# Altium schematic symbol library Ancient Schematics.SchLib: 609 symbols (part 3 of 3)
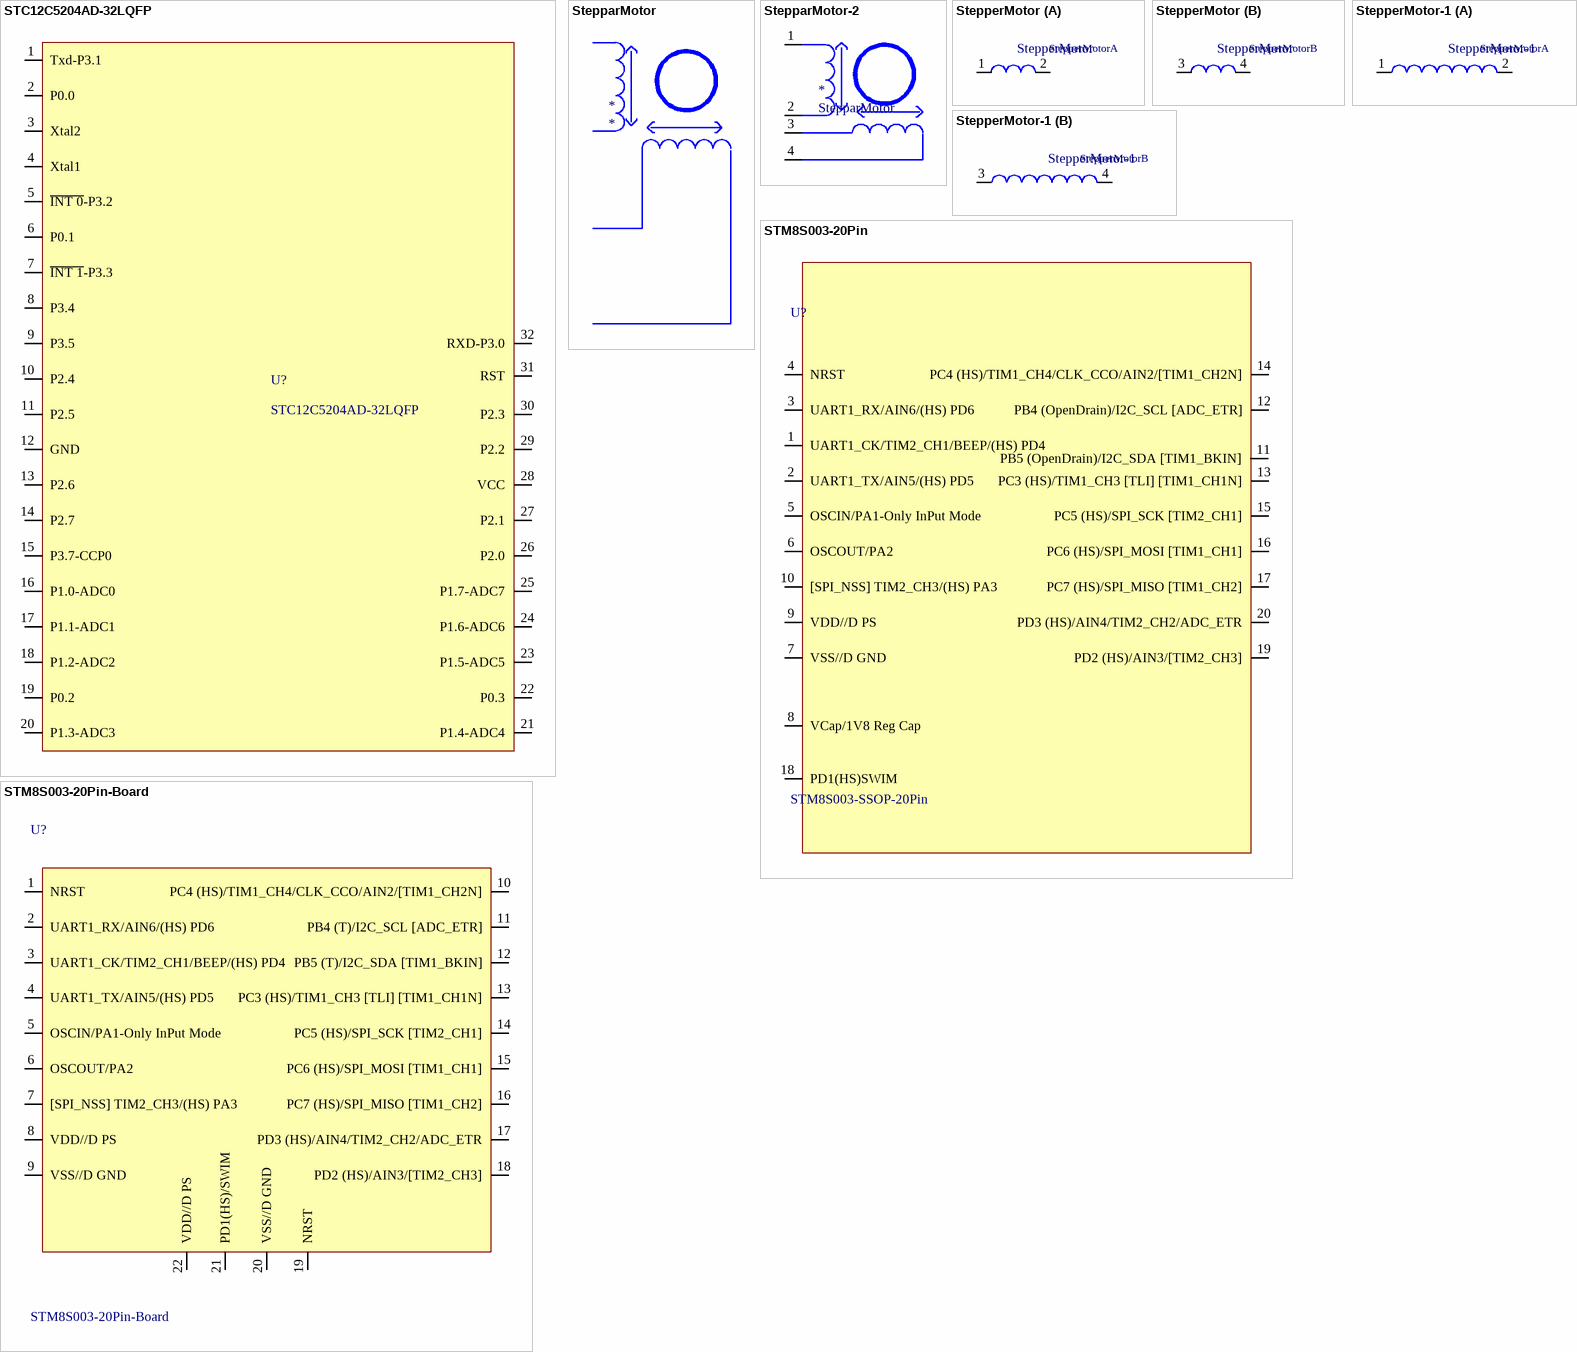
[diagram p46: symbols STC12C5204AD-32LQFP to STM8S003-20Pin-Board]

## STM8S003-20Pin-Board
designator U?
Flash256KB,16KB,100Pin TQFP
footprint STM8S_SSOP20_MT185 (STM8S Target Board)
pins: 1 NRST, 2 UART1_RX/AIN6/(HS) PD6, 3 UART1_CK/TIM2_CH1/BEEP/(HS) PD4, 4 UART1_TX/AIN5/(HS) PD5, 5 OSCIN/PA1-Only InPut Mode, 6 OSCOUT/PA2, 7 [SPI_NSS] TIM2_CH3/(HS) PA3, 8 VDD//D PS, 9 VSS//D GND, 10 PC4 (HS)/TIM1_CH4/CLK_CCO/AIN2/[TIM1_CH2N], 11 PB4 (T)/I2C_SCL [ADC_ETR], 12 PB5 (T)/I2C_SDA [TIM1_BKIN], 13 PC3 (HS)/TIM1_CH3 [TLI] [TIM1_CH1N], 14 PC5 (HS)/SPI_SCK [TIM2_CH1], 15 PC6 (HS)/SPI_MOSI [TIM1_CH1], 16 PC7 (HS)/SPI_MISO [TIM1_CH2], 17 PD3 (HS)/AIN4/TIM2_CH2/ADC_ETR, 18 PD2 (HS)/AIN3/[TIM2_CH3], 19 NRST, 20 VSS//D GND, 21 PD1(HS)/SWIM, 22 VDD//D PS

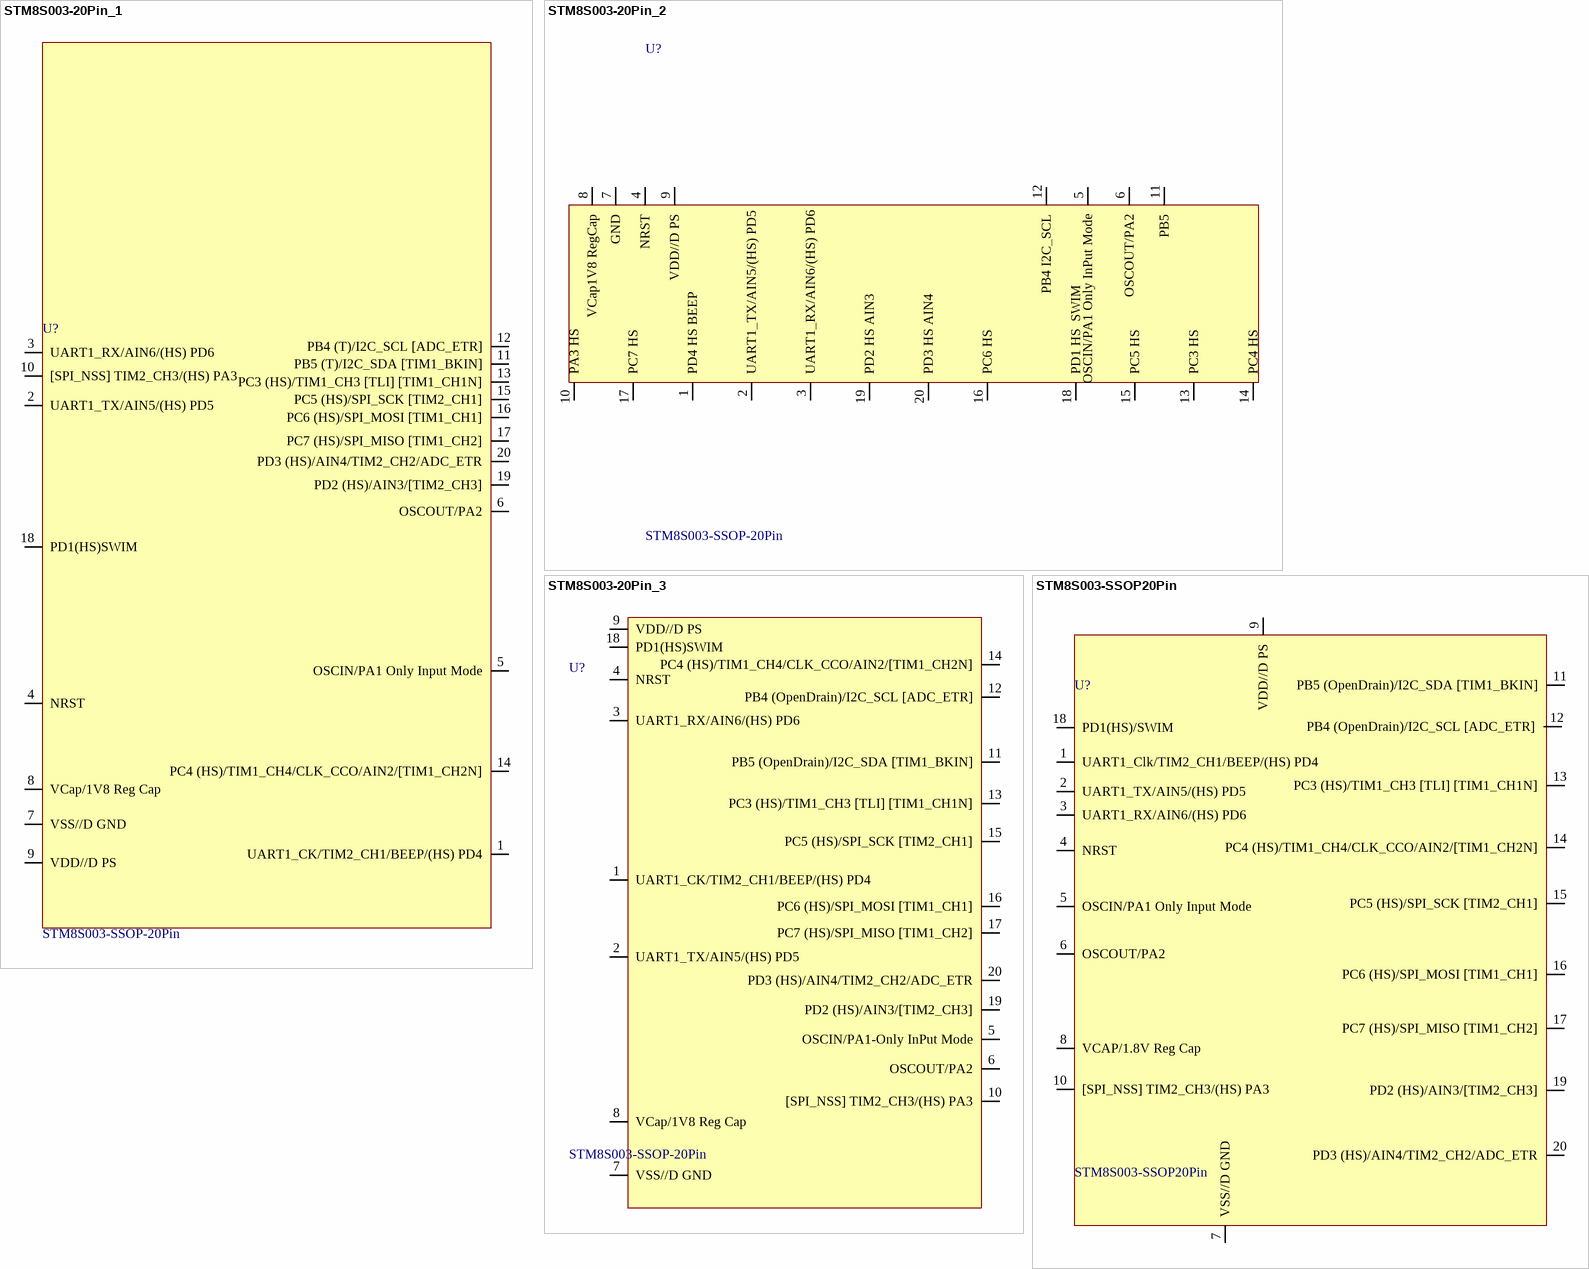
[diagram p34: symbols STM8S003-20Pin_1 to STM8S003-SSOP20Pin]

## STM8S003-20Pin_1
designator U?, comment STM8S003-SSOP-20Pin
Flash8KB,1KB,20Pin SSOP
footprint SSOP-20 4.40MM .65MM Pitch (STM8S003)
pins: 1 UART1_CK/TIM2_CH1/BEEP/(HS) PD4, 2 UART1_TX/AIN5/(HS) PD5, 3 UART1_RX/AIN6/(HS) PD6, 4 NRST, 5 OSCIN/PA1 Only Input Mode, 6 OSCOUT/PA2, 7 VSS//D GND, 8 VCap/1V8 Reg Cap, 9 VDD//D PS, 10 [SPI_NSS] TIM2_CH3/(HS) PA3, 11 PB5 (T)/I2C_SDA [TIM1_BKIN], 12 PB4 (T)/I2C_SCL [ADC_ETR], 13 PC3 (HS)/TIM1_CH3 [TLI] [TIM1_CH1N], 14 PC4 (HS)/TIM1_CH4/CLK_CCO/AIN2/[TIM1_CH2N], 15 PC5 (HS)/SPI_SCK [TIM2_CH1], 16 PC6 (HS)/SPI_MOSI [TIM1_CH1], 17 PC7 (HS)/SPI_MISO [TIM1_CH2], 18 PD1(HS)SWIM, 19 PD2 (HS)/AIN3/[TIM2_CH3], 20 PD3 (HS)/AIN4/TIM2_CH2/ADC_ETR

## STM8S003-20Pin_2
designator U?, comment STM8S003-SSOP-20Pin
Flash8KB,1KB,20Pin SSOP
footprint SSOP-20 4.40MM .65MM Pitch (STM8S003)
pins: 1 PD4 HS BEEP, 2 UART1_TX/AIN5/(HS) PD5, 3 UART1_RX/AIN6/(HS) PD6, 4 NRST, 5 OSCIN/PA1 Only InPut Mode, 6 OSCOUT/PA2, 7 GND, 8 VCap1V8 RegCap, 9 VDD//D PS, 10 PA3 HS, 11 PB5, 12 PB4 I2C_SCL, 13 PC3 HS, 14 PC4 HS, 15 PC5 HS, 16 PC6 HS, 17 PC7 HS, 18 PD1 HS  SWIM, 19 PD2 HS AIN3, 20 PD3 HS AIN4

## STM8S003-20Pin_3
designator U?, comment STM8S003-SSOP-20Pin
Flash8KB,1KB,20Pin SSOP
footprint SSOP-20 4.40MM .65MM Pitch (STM8S003)
pins: 1 UART1_CK/TIM2_CH1/BEEP/(HS) PD4, 2 UART1_TX/AIN5/(HS) PD5, 3 UART1_RX/AIN6/(HS) PD6, 4 NRST, 5 OSCIN/PA1-Only InPut Mode, 6 OSCOUT/PA2, 7 VSS//D GND, 8 VCap/1V8 Reg Cap, 9 VDD//D PS, 10 [SPI_NSS] TIM2_CH3/(HS) PA3, 11 PB5 (OpenDrain)/I2C_SDA [TIM1_BKIN], 12 PB4 (OpenDrain)/I2C_SCL [ADC_ETR], 13 PC3 (HS)/TIM1_CH3 [TLI] [TIM1_CH1N], 14 PC4 (HS)/TIM1_CH4/CLK_CCO/AIN2/[TIM1_CH2N], 15 PC5 (HS)/SPI_SCK [TIM2_CH1], 16 PC6 (HS)/SPI_MOSI [TIM1_CH1], 17 PC7 (HS)/SPI_MISO [TIM1_CH2], 18 PD1(HS)SWIM, 19 PD2 (HS)/AIN3/[TIM2_CH3], 20 PD3 (HS)/AIN4/TIM2_CH2/ADC_ETR

## STM8S003-SSOP20Pin
designator U?
Flash8KB,1KB,20Pin SSOP
footprint SSOP-20 4.40MM .65MM Pitch-1 (STM8S003)
pins: 1 UART1_Clk/TIM2_CH1/BEEP/(HS) PD4, 2 UART1_TX/AIN5/(HS) PD5, 3 UART1_RX/AIN6/(HS) PD6, 4 NRST, 5 OSCIN/PA1 Only Input Mode, 6 OSCOUT/PA2, 7 VSS//D GND, 8 VCAP/1.8V Reg Cap, 9 VDD//D PS, 10 [SPI_NSS] TIM2_CH3/(HS) PA3, 11 PB5 (OpenDrain)/I2C_SDA [TIM1_BKIN], 12 PB4 (OpenDrain)/I2C_SCL [ADC_ETR], 13 PC3 (HS)/TIM1_CH3 [TLI] [TIM1_CH1N], 14 PC4 (HS)/TIM1_CH4/CLK_CCO/AIN2/[TIM1_CH2N], 15 PC5 (HS)/SPI_SCK [TIM2_CH1], 16 PC6 (HS)/SPI_MOSI [TIM1_CH1], 17 PC7 (HS)/SPI_MISO [TIM1_CH2], 18 PD1(HS)/SWIM, 19 PD2 (HS)/AIN3/[TIM2_CH3], 20 PD3 (HS)/AIN4/TIM2_CH2/ADC_ETR

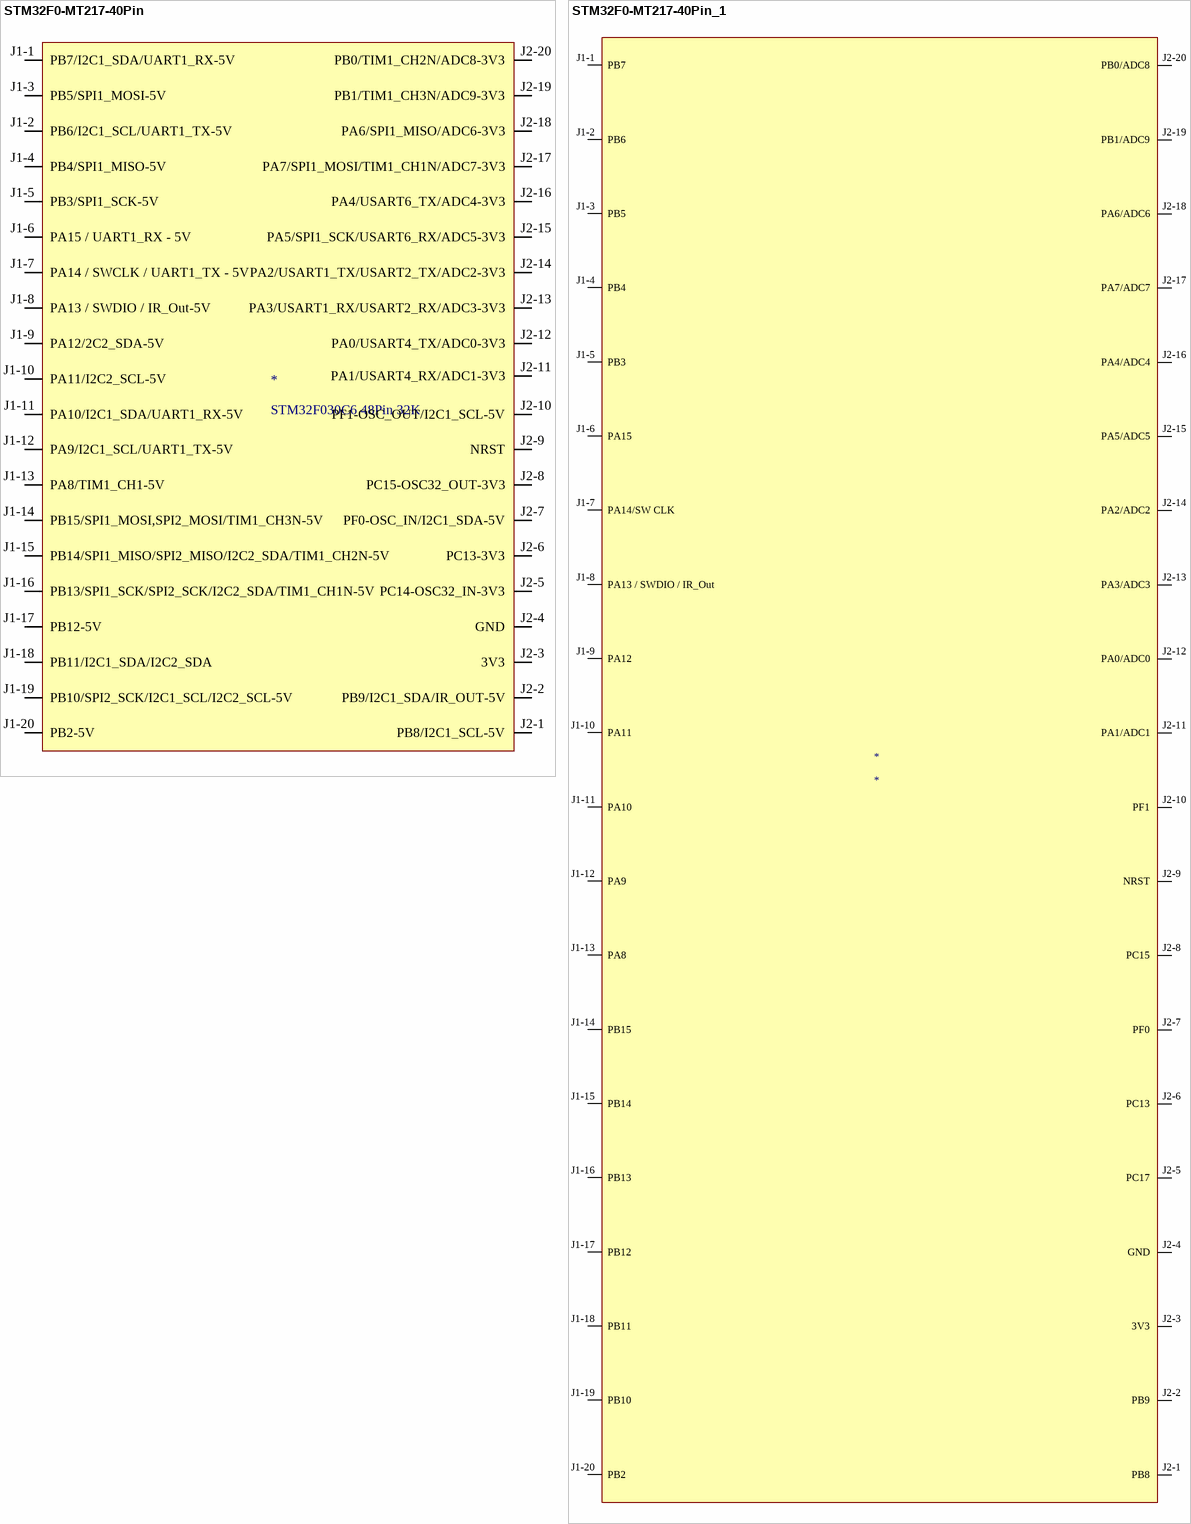
[diagram p35: symbols STM32F0-MT217-40Pin to STM32F0-MT217-40Pin_1]

## STM32F0-MT217-40Pin
designator *, comment STM32F030C6 48Pin 32K
footprint MT217-STM32F030C6 (TM32F030C6 48Pin 32K)
pins: J1-1 PB7/I2C1_SDA/UART1_RX-5V, J1-2 PB6/I2C1_SCL/UART1_TX-5V, J1-3 PB5/SPI1_MOSI-5V, J1-4 PB4/SPI1_MISO-5V, J1-5 PB3/SPI1_SCK-5V, J1-6 PA15 / UART1_RX - 5V, J1-7 PA14 / SWCLK / UART1_TX - 5V, J1-8 PA13 / SWDIO / IR_Out-5V, J1-9 PA12/2C2_SDA-5V, J1-10 PA11/I2C2_SCL-5V, J1-11 PA10/I2C1_SDA/UART1_RX-5V, J1-12 PA9/I2C1_SCL/UART1_TX-5V, J1-13 PA8/TIM1_CH1-5V, J1-14 PB15/SPI1_MOSI,SPI2_MOSI/TIM1_CH3N-5V, J1-15 PB14/SPI1_MISO/SPI2_MISO/I2C2_SDA/TIM1_CH2N-5V, J1-16 PB13/SPI1_SCK/SPI2_SCK/I2C2_SDA/TIM1_CH1N-5V, J1-17 PB12-5V, J1-18 PB11/I2C1_SDA/I2C2_SDA, J1-19 PB10/SPI2_SCK/I2C1_SCL/I2C2_SCL-5V, J1-20 PB2-5V, J2-1 PB8/I2C1_SCL-5V, J2-2 PB9/I2C1_SDA/IR_OUT-5V, J2-3 3V3, J2-4 GND, J2-5 PC14-OSC32_IN-3V3, J2-6 PC13-3V3, J2-7 PF0-OSC_IN/I2C1_SDA-5V, J2-8 PC15-OSC32_OUT-3V3, J2-9 NRST, J2-10 PF1-OSC_OUT/I2C1_SCL-5V, J2-11 PA1/USART4_RX/ADC1-3V3, J2-12 PA0/USART4_TX/ADC0-3V3, J2-13 PA3/USART1_RX/USART2_RX/ADC3-3V3, J2-14 PA2/USART1_TX/USART2_TX/ADC2-3V3, J2-15 PA5/SPI1_SCK/USART6_RX/ADC5-3V3, J2-16 PA4/USART6_TX/ADC4-3V3, J2-17 PA7/SPI1_MOSI/TIM1_CH1N/ADC7-3V3, J2-18 PA6/SPI1_MISO/ADC6-3V3, J2-19 PB1/TIM1_CH3N/ADC9-3V3, J2-20 PB0/TIM1_CH2N/ADC8-3V3

## STM32F0-MT217-40Pin_1
designator *
pins: J1-1 PB7, J1-2 PB6, J1-3 PB5, J1-4 PB4, J1-5 PB3, J1-6 PA15, J1-7 PA14/SW CLK, J1-8 PA13 / SWDIO / IR_Out, J1-9 PA12, J1-10 PA11, J1-11 PA10, J1-12 PA9, J1-13 PA8, J1-14 PB15, J1-15 PB14, J1-16 PB13, J1-17 PB12, J1-18 PB11, J1-19 PB10, J1-20 PB2, J2-1 PB8, J2-2 PB9, J2-3 3V3, J2-4 GND, J2-5 PC17, J2-6 PC13, J2-7 PF0, J2-8 PC15, J2-9 NRST, J2-10 PF1, J2-11 PA1/ADC1, J2-12 PA0/ADC0, J2-13 PA3/ADC3, J2-14 PA2/ADC2, J2-15 PA5/ADC5, J2-16 PA4/ADC4, J2-17 PA7/ADC7, J2-18 PA6/ADC6, J2-19 PB1/ADC9, J2-20 PB0/ADC8

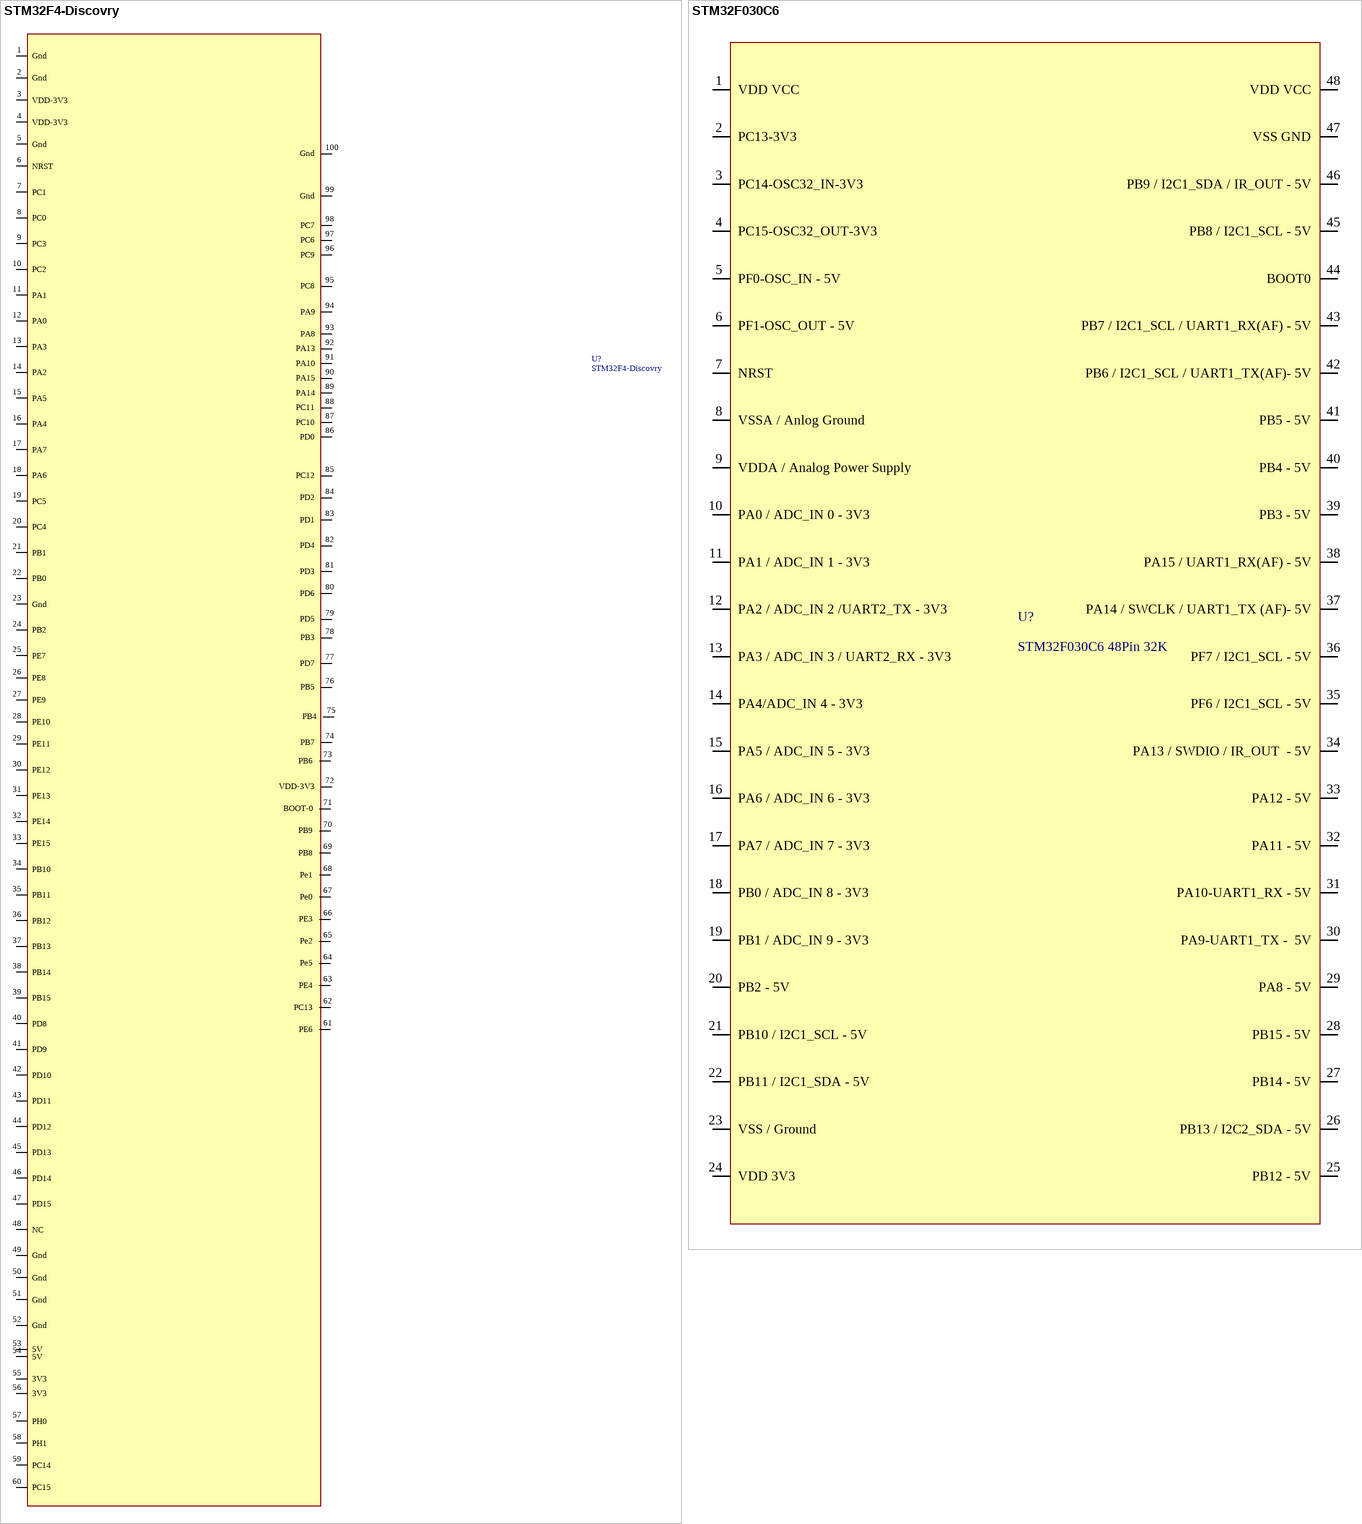
[diagram p36: symbols STM32F4-Discovry to STM32F030C6]

## STM32F4-Discovry
designator U?
Flash256KB,16KB,100Pin TQFP
footprint 100Pin TQFP (Footprint not found)
pins: 1 Gnd, 2 Gnd, 3 VDD-3V3, 4 VDD-3V3, 5 Gnd, 6 NRST, 7 PC1, 8 PC0, 9 PC3, 10 PC2, 11 PA1, 12 PA0, 13 PA3, 14 PA2, 15 PA5, 16 PA4, 17 PA7, 18 PA6, 19 PC5, 20 PC4, 21 PB1, 22 PB0, 23 Gnd, 24 PB2, 25 PE7, 26 PE8, 27 PE9, 28 PE10, 29 PE11, 30 PE12, 31 PE13, 32 PE14, 33 PE15, 34 PB10, 35 PB11, 36 PB12, 37 PB13, 38 PB14, 39 PB15, 40 PD8, 41 PD9, 42 PD10, 43 PD11, 44 PD12, 45 PD13, 46 PD14, 47 PD15, 48 NC, 49 Gnd, 50 Gnd, 51 Gnd, 52 Gnd, 53 5V, 54 5V, 55 3V3, 56 3V3, 57 PH0, 58 PH1, 59 PC14, 60 PC15, 61 PE6, 62 PC13, 63 PE4, 64 Pe5, 65 Pe2, 66 PE3, 67 Pe0, 68 Pe1, 69 PB8, 70 PB9, 71 BOOT-0, 72 VDD-3V3, 73 PB6, 74 PB7, 75 PB4, 76 PB5, 77 PD7, 78 PB3, 79 PD5, 80 PD6, 81 PD3, 82 PD4, 83 PD1, 84 PD2, 85 PC12, 86 PD0, 87 PC10, 88 PC11, 89 PA14, 90 PA15, 91 PA10, 92 PA13, 93 PA8, 94 PA9, 95 PC8, 96 PC9, 97 PC6, 98 PC7, 99 Gnd, 100 Gnd

## STM32F030C6
designator U?, comment STM32F030C6 48Pin 32K
footprint LQFP48 (Picth .5)
pins: 1 VDD VCC, 2 PC13-3V3, 3 PC14-OSC32_IN-3V3, 4 PC15-OSC32_OUT-3V3, 5 PF0-OSC_IN - 5V, 6 PF1-OSC_OUT - 5V, 7 NRST, 8 VSSA / Anlog Ground, 9 VDDA / Analog Power Supply, 10 PA0 / ADC_IN 0 - 3V3, 11 PA1 / ADC_IN 1 - 3V3, 12 PA2 / ADC_IN 2 /UART2_TX - 3V3, 13 PA3 / ADC_IN 3 / UART2_RX - 3V3, 14 PA4/ADC_IN 4 - 3V3, 15 PA5 / ADC_IN 5 - 3V3, 16 PA6 / ADC_IN 6 - 3V3, 17 PA7 / ADC_IN 7 - 3V3, 18 PB0 / ADC_IN 8 - 3V3, 19 PB1 / ADC_IN 9 - 3V3, 20 PB2 - 5V, 21 PB10 / I2C1_SCL - 5V, 22 PB11 / I2C1_SDA - 5V, 23 VSS / Ground, 24 VDD 3V3, 25 PB12 - 5V, 26 PB13 / I2C2_SDA - 5V, 27 PB14 - 5V, 28 PB15 - 5V, 29 PA8 - 5V, 30 PA9-UART1_TX -  5V, 31 PA10-UART1_RX - 5V, 32 PA11 - 5V, 33 PA12 - 5V, 34 PA13 / SWDIO / IR_OUT  - 5V, 35 PF6 / I2C1_SCL - 5V, 36 PF7 / I2C1_SCL - 5V, 37 PA14 / SWCLK / UART1_TX (AF)- 5V, 38 PA15 / UART1_RX(AF) - 5V, 39 PB3 - 5V, 40 PB4 - 5V, 41 PB5 - 5V, 42 PB6 / I2C1_SCL / UART1_TX(AF)- 5V, 43 PB7 / I2C1_SCL / UART1_RX(AF) - 5V, 44 BOOT0, 45 PB8 / I2C1_SCL - 5V, 46 PB9 / I2C1_SDA / IR_OUT - 5V, 47 VSS GND, 48 VDD VCC

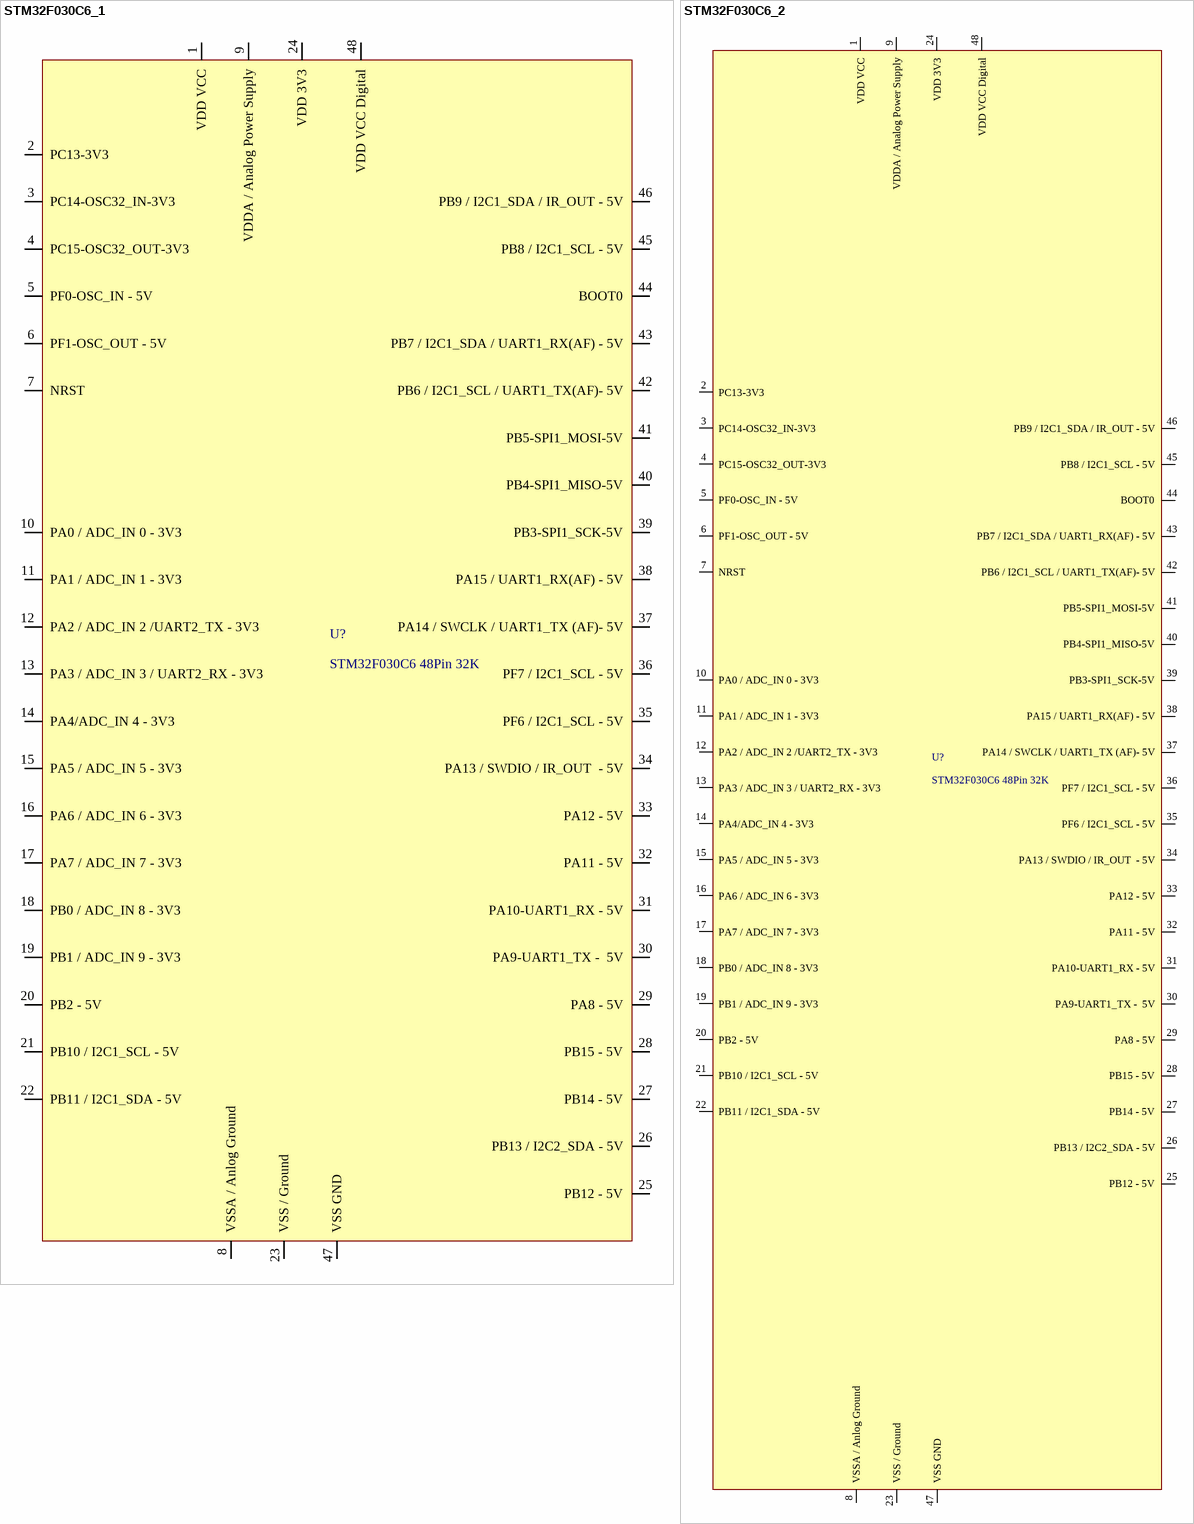
[diagram p37: symbols STM32F030C6_1 to STM32F030C6_2]

## STM32F030C6_1
designator U?, comment STM32F030C6 48Pin 32K
footprint LQFP48 (Picth .5)
pins: 1 VDD VCC, 2 PC13-3V3, 3 PC14-OSC32_IN-3V3, 4 PC15-OSC32_OUT-3V3, 5 PF0-OSC_IN - 5V, 6 PF1-OSC_OUT - 5V, 7 NRST, 8 VSSA / Anlog Ground, 9 VDDA / Analog Power Supply, 10 PA0 / ADC_IN 0 - 3V3, 11 PA1 / ADC_IN 1 - 3V3, 12 PA2 / ADC_IN 2 /UART2_TX - 3V3, 13 PA3 / ADC_IN 3 / UART2_RX - 3V3, 14 PA4/ADC_IN 4 - 3V3, 15 PA5 / ADC_IN 5 - 3V3, 16 PA6 / ADC_IN 6 - 3V3, 17 PA7 / ADC_IN 7 - 3V3, 18 PB0 / ADC_IN 8 - 3V3, 19 PB1 / ADC_IN 9 - 3V3, 20 PB2 - 5V, 21 PB10 / I2C1_SCL - 5V, 22 PB11 / I2C1_SDA - 5V, 23 VSS / Ground, 24 VDD 3V3, 25 PB12 - 5V, 26 PB13 / I2C2_SDA - 5V, 27 PB14 - 5V, 28 PB15 - 5V, 29 PA8 - 5V, 30 PA9-UART1_TX -  5V, 31 PA10-UART1_RX - 5V, 32 PA11 - 5V, 33 PA12 - 5V, 34 PA13 / SWDIO / IR_OUT  - 5V, 35 PF6 / I2C1_SCL - 5V, 36 PF7 / I2C1_SCL - 5V, 37 PA14 / SWCLK / UART1_TX (AF)- 5V, 38 PA15 / UART1_RX(AF) - 5V, 39 PB3-SPI1_SCK-5V, 40 PB4-SPI1_MISO-5V, 41 PB5-SPI1_MOSI-5V, 42 PB6 / I2C1_SCL / UART1_TX(AF)- 5V, 43 PB7 / I2C1_SDA / UART1_RX(AF) - 5V, 44 BOOT0, 45 PB8 / I2C1_SCL - 5V, 46 PB9 / I2C1_SDA / IR_OUT - 5V, 47 VSS GND, 48 VDD VCC Digital

## STM32F030C6_2
designator U?, comment STM32F030C6 48Pin 32K
footprint LQFP48 (Picth .5)
pins: 1 VDD VCC, 2 PC13-3V3, 3 PC14-OSC32_IN-3V3, 4 PC15-OSC32_OUT-3V3, 5 PF0-OSC_IN - 5V, 6 PF1-OSC_OUT - 5V, 7 NRST, 8 VSSA / Anlog Ground, 9 VDDA / Analog Power Supply, 10 PA0 / ADC_IN 0 - 3V3, 11 PA1 / ADC_IN 1 - 3V3, 12 PA2 / ADC_IN 2 /UART2_TX - 3V3, 13 PA3 / ADC_IN 3 / UART2_RX - 3V3, 14 PA4/ADC_IN 4 - 3V3, 15 PA5 / ADC_IN 5 - 3V3, 16 PA6 / ADC_IN 6 - 3V3, 17 PA7 / ADC_IN 7 - 3V3, 18 PB0 / ADC_IN 8 - 3V3, 19 PB1 / ADC_IN 9 - 3V3, 20 PB2 - 5V, 21 PB10 / I2C1_SCL - 5V, 22 PB11 / I2C1_SDA - 5V, 23 VSS / Ground, 24 VDD 3V3, 25 PB12 - 5V, 26 PB13 / I2C2_SDA - 5V, 27 PB14 - 5V, 28 PB15 - 5V, 29 PA8 - 5V, 30 PA9-UART1_TX -  5V, 31 PA10-UART1_RX - 5V, 32 PA11 - 5V, 33 PA12 - 5V, 34 PA13 / SWDIO / IR_OUT  - 5V, 35 PF6 / I2C1_SCL - 5V, 36 PF7 / I2C1_SCL - 5V, 37 PA14 / SWCLK / UART1_TX (AF)- 5V, 38 PA15 / UART1_RX(AF) - 5V, 39 PB3-SPI1_SCK-5V, 40 PB4-SPI1_MISO-5V, 41 PB5-SPI1_MOSI-5V, 42 PB6 / I2C1_SCL / UART1_TX(AF)- 5V, 43 PB7 / I2C1_SDA / UART1_RX(AF) - 5V, 44 BOOT0, 45 PB8 / I2C1_SCL - 5V, 46 PB9 / I2C1_SDA / IR_OUT - 5V, 47 VSS GND, 48 VDD VCC Digital

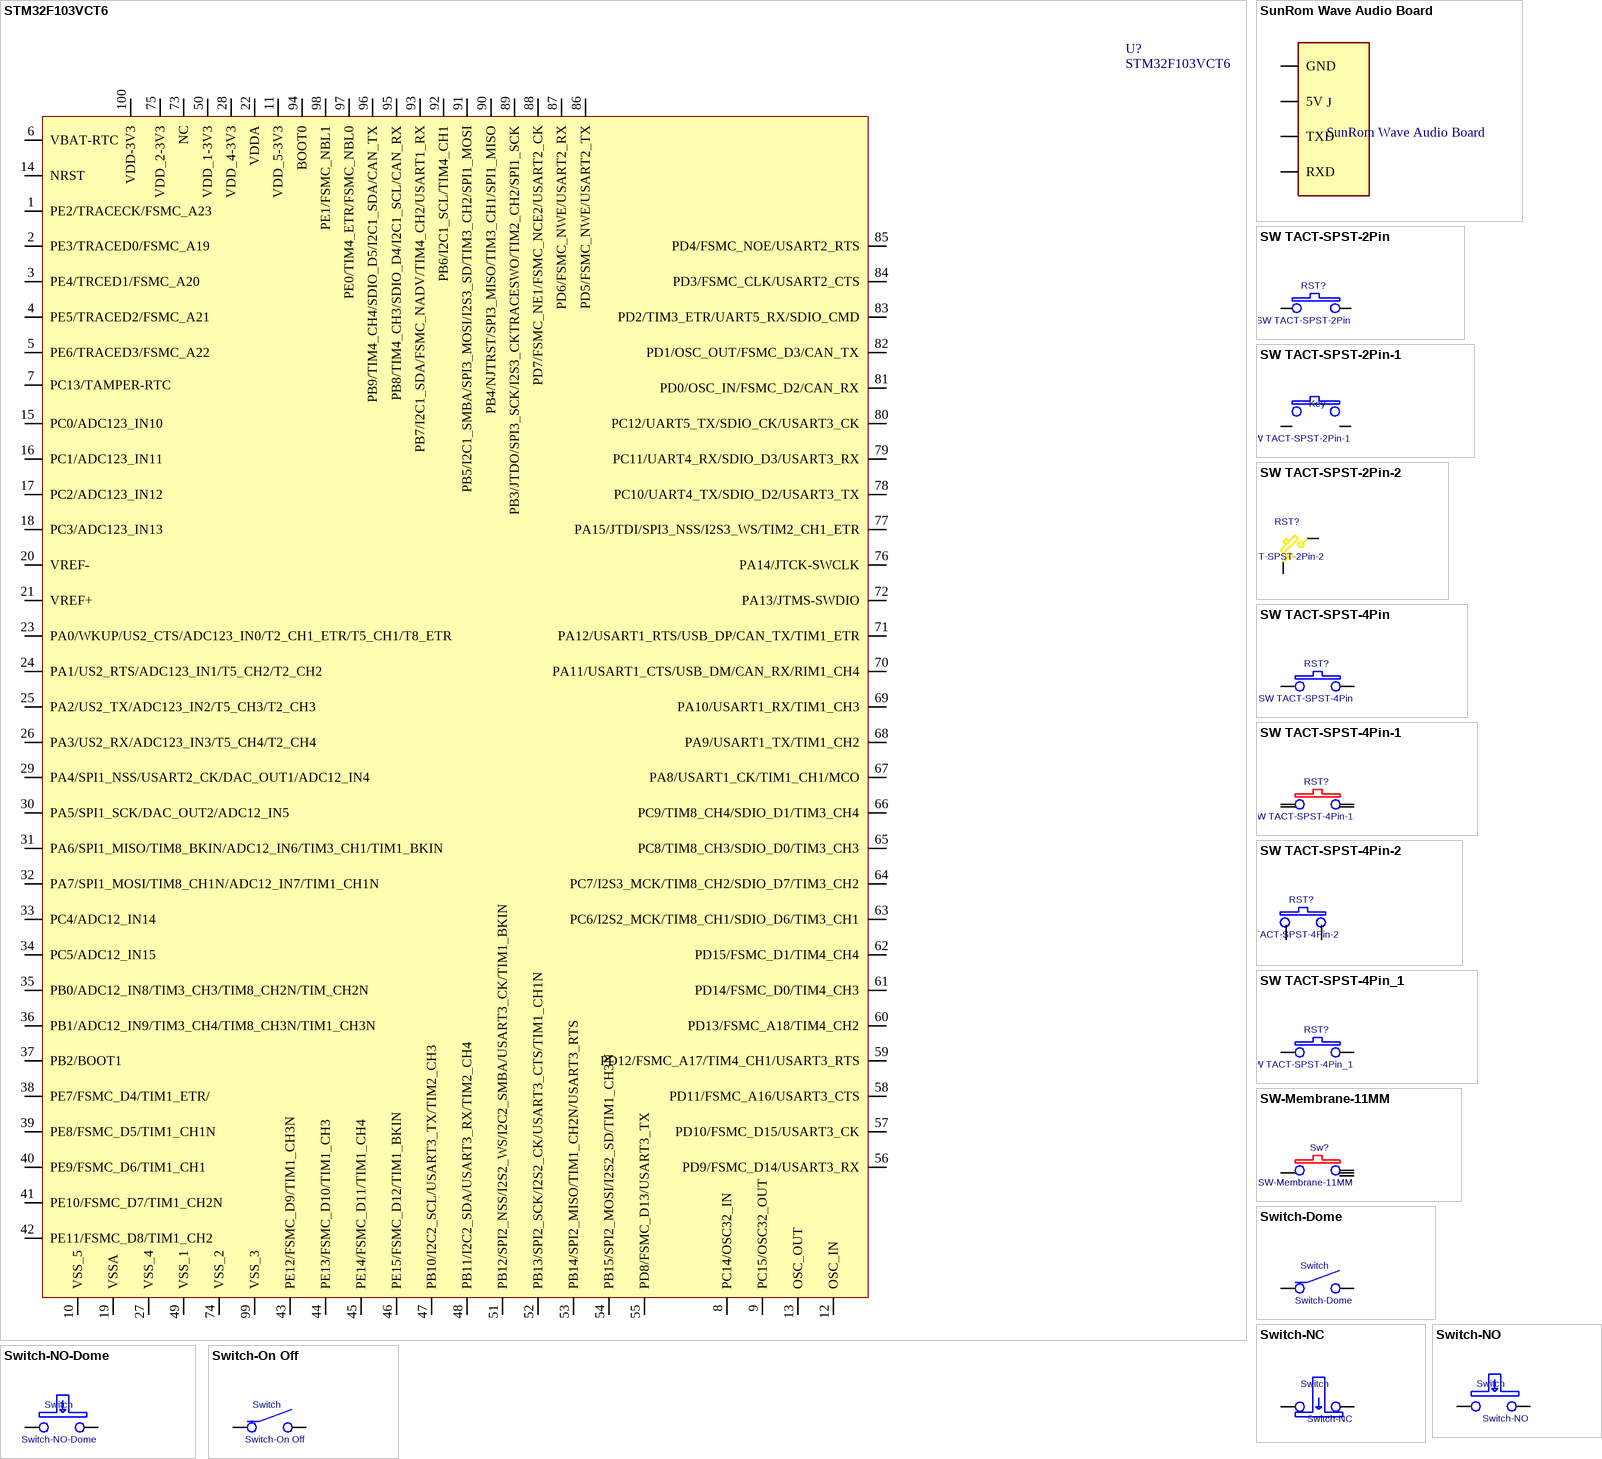
[diagram p38: symbols STM32F103VCT6 to Switch-On Off]

## STM32F103VCT6
designator U?
Flash256KB,16KB,100Pin TQFP
footprint 100Pin TQFP (Footprint not found)
pins: 1 PE2/TRACECK/FSMC_A23, 2 PE3/TRACED0/FSMC_A19, 3 PE4/TRCED1/FSMC_A20, 4 PE5/TRACED2/FSMC_A21, 5 PE6/TRACED3/FSMC_A22, 6 VBAT-RTC, 7 PC13/TAMPER-RTC, 8 PC14/OSC32_IN, 9 PC15/OSC32_OUT, 10 VSS_5, 11 VDD_5-3V3, 12 OSC_IN, 13 OSC_OUT, 14 NRST, 15 PC0/ADC123_IN10, 16 PC1/ADC123_IN11, 17 PC2/ADC123_IN12, 18 PC3/ADC123_IN13, 19 VSSA, 20 VREF-, 21 VREF+, 22 VDDA, 23 PA0/WKUP/US2_CTS/ADC123_IN0/T2_CH1_ETR/T5_CH1/T8_ETR, 24 PA1/US2_RTS/ADC123_IN1/T5_CH2/T2_CH2, 25 PA2/US2_TX/ADC123_IN2/T5_CH3/T2_CH3, 26 PA3/US2_RX/ADC123_IN3/T5_CH4/T2_CH4, 27 VSS_4, 28 VDD_4-3V3, 29 PA4/SPI1_NSS/USART2_CK/DAC_OUT1/ADC12_IN4, 30 PA5/SPI1_SCK/DAC_OUT2/ADC12_IN5, 31 PA6/SPI1_MISO/TIM8_BKIN/ADC12_IN6/TIM3_CH1/TIM1_BKIN, 32 PA7/SPI1_MOSI/TIM8_CH1N/ADC12_IN7/TIM1_CH1N, 33 PC4/ADC12_IN14, 34 PC5/ADC12_IN15, 35 PB0/ADC12_IN8/TIM3_CH3/TIM8_CH2N/TIM_CH2N, 36 PB1/ADC12_IN9/TIM3_CH4/TIM8_CH3N/TIM1_CH3N, 37 PB2/BOOT1, 38 PE7/FSMC_D4/TIM1_ETR/, 39 PE8/FSMC_D5/TIM1_CH1N, 40 PE9/FSMC_D6/TIM1_CH1, 41 PE10/FSMC_D7/TIM1_CH2N, 42 PE11/FSMC_D8/TIM1_CH2, 43 PE12/FSMC_D9/TIM1_CH3N, 44 PE13/FSMC_D10/TIM1_CH3, 45 PE14/FSMC_D11/TIM1_CH4, 46 PE15/FSMC_D12/TIM1_BKIN, 47 PB10/I2C2_SCL/USART3_TX/TIM2_CH3, 48 PB11/I2C2_SDA/USART3_RX/TIM2_CH4, 49 VSS_1, 50 VDD_1-3V3, 51 PB12/SPI2_NSS/I2S2_WS/I2C2_SMBA/USART3_CK/TIM1_BKIN, 52 PB13/SPI2_SCK/I2S2_CK/USART3_CTS/TIM1_CH1N, 53 PB14/SPI2_MISO/TIM1_CH2N/USART3_RTS, 54 PB15/SPI2_MOSI/I2S2_SD/TIM1_CH3N, 55 PD8/FSMC_D13/USART3_TX, 56 PD9/FSMC_D14/USART3_RX, 57 PD10/FSMC_D15/USART3_CK, 58 PD11/FSMC_A16/USART3_CTS, 59 PD12/FSMC_A17/TIM4_CH1/USART3_RTS, 60 PD13/FSMC_A18/TIM4_CH2, 61 PD14/FSMC_D0/TIM4_CH3, 62 PD15/FSMC_D1/TIM4_CH4, 63 PC6/I2S2_MCK/TIM8_CH1/SDIO_D6/TIM3_CH1, 64 PC7/I2S3_MCK/TIM8_CH2/SDIO_D7/TIM3_CH2, 65 PC8/TIM8_CH3/SDIO_D0/TIM3_CH3, 66 PC9/TIM8_CH4/SDIO_D1/TIM3_CH4, 67 PA8/USART1_CK/TIM1_CH1/MCO, 68 PA9/USART1_TX/TIM1_CH2, 69 PA10/USART1_RX/TIM1_CH3, 70 PA11/USART1_CTS/USB_DM/CAN_RX/RIM1_CH4, 71 PA12/USART1_RTS/USB_DP/CAN_TX/TIM1_ETR, 72 PA13/JTMS-SWDIO, 73 NC, 74 VSS_2, 75 VDD_2-3V3, 76 PA14/JTCK-SWCLK, 77 PA15/JTDI/SPI3_NSS/I2S3_WS/TIM2_CH1_ETR, 78 PC10/UART4_TX/SDIO_D2/USART3_TX, 79 PC11/UART4_RX/SDIO_D3/USART3_RX, 80 PC12/UART5_TX/SDIO_CK/USART3_CK, 81 PD0/OSC_IN/FSMC_D2/CAN_RX, 82 PD1/OSC_OUT/FSMC_D3/CAN_TX, 83 PD2/TIM3_ETR/UART5_RX/SDIO_CMD, 84 PD3/FSMC_CLK/USART2_CTS, 85 PD4/FSMC_NOE/USART2_RTS, 86 PD5/FSMC_NWE/USART2_TX, 87 PD6/FSMC_NWE/USART2_RX, 88 PD7/FSMC_NE1/FSMC_NCE2/USART2_CK, 89 PB3/JTDO/SPI3_SCK/I2S3_CKTRACESWO/TIM2_CH2/SPI1_SCK, 90 PB4/NJTRST/SPI3_MISO/TIM3_CH1/SPI1_MISO, 91 PB5/I2C1_SMBA/SPI3_MOSI/I2S3_SD/TIM3_CH2/SPI1_MOSI, 92 PB6/I2C1_SCL/TIM4_CH1, 93 PB7/I2C1_SDA/FSMC_NADV/TIM4_CH2/USART1_RX, 94 BOOT0, 95 PB8/TIM4_CH3/SDIO_D4/I2C1_SCL/CAN_RX, 96 PB9/TIM4_CH4/SDIO_D5/I2C1_SDA/CAN_TX, 97 PE0/TIM4_ETR/FSMC_NBL0, 98 PE1/FSMC_NBL1, 99 VSS_3, 100 VDD-3V3

## SunRom Wave Audio Board
designator J
footprint SunRomWaveAudio (SunRomWaveAudio Board)
pins: 1 GND, 2 5V, 3 TXD, 4 RXD

## SW TACT-SPST-2Pin
designator RST?
footprint Tact Swicth 6MM X 4MM PTH
pins: 1, 2

## SW TACT-SPST-2Pin-1
designator Key
footprint Tact Swicth 6MM X 4MM PTH
pins: 1, 2

## SW TACT-SPST-2Pin-2
designator RST?
footprint Tact Swicth 6MM X 4MM PTH
pins: 1, 2

## SW TACT-SPST-4Pin
designator RST?
footprint Swicth-TACT-SMALL
pins: 1, 2, 3, 4

## SW TACT-SPST-4Pin-1
designator RST?
footprint SWICTH-TACT-BIG (TactSwicthBig 12 X 12 MM)
pins: 1, 2, 3, 4

## SW TACT-SPST-4Pin-2
designator RST?
footprint Swicth-TACT-SMALL
pins: 1, 2, 3, 4

## SW TACT-SPST-4Pin_1
designator RST?
footprint Swicth-TACT-SMALL
pins: 1, 2, 3, 4

## SW-Membrane-11MM
designator Sw?
footprint SWICTH-MemranKey 11MM
pins: 1, 2, 3, 4

## Switch-Dome
designator Switch
footprint Dome 7MM (KeyBoard Dome 7MM)
pins: 1, 2, 3, 4

## Switch-NC
designator Switch
pins: 1, 2

## Switch-NO
designator Switch
pins: 1, 2

## Switch-NO-Dome
designator Switch
footprint Dome 9MM (KeyBoard Dome 9MM)
pins: 1, 2, 3, 4

## Switch-On Off
designator Switch
pins: 1, 2

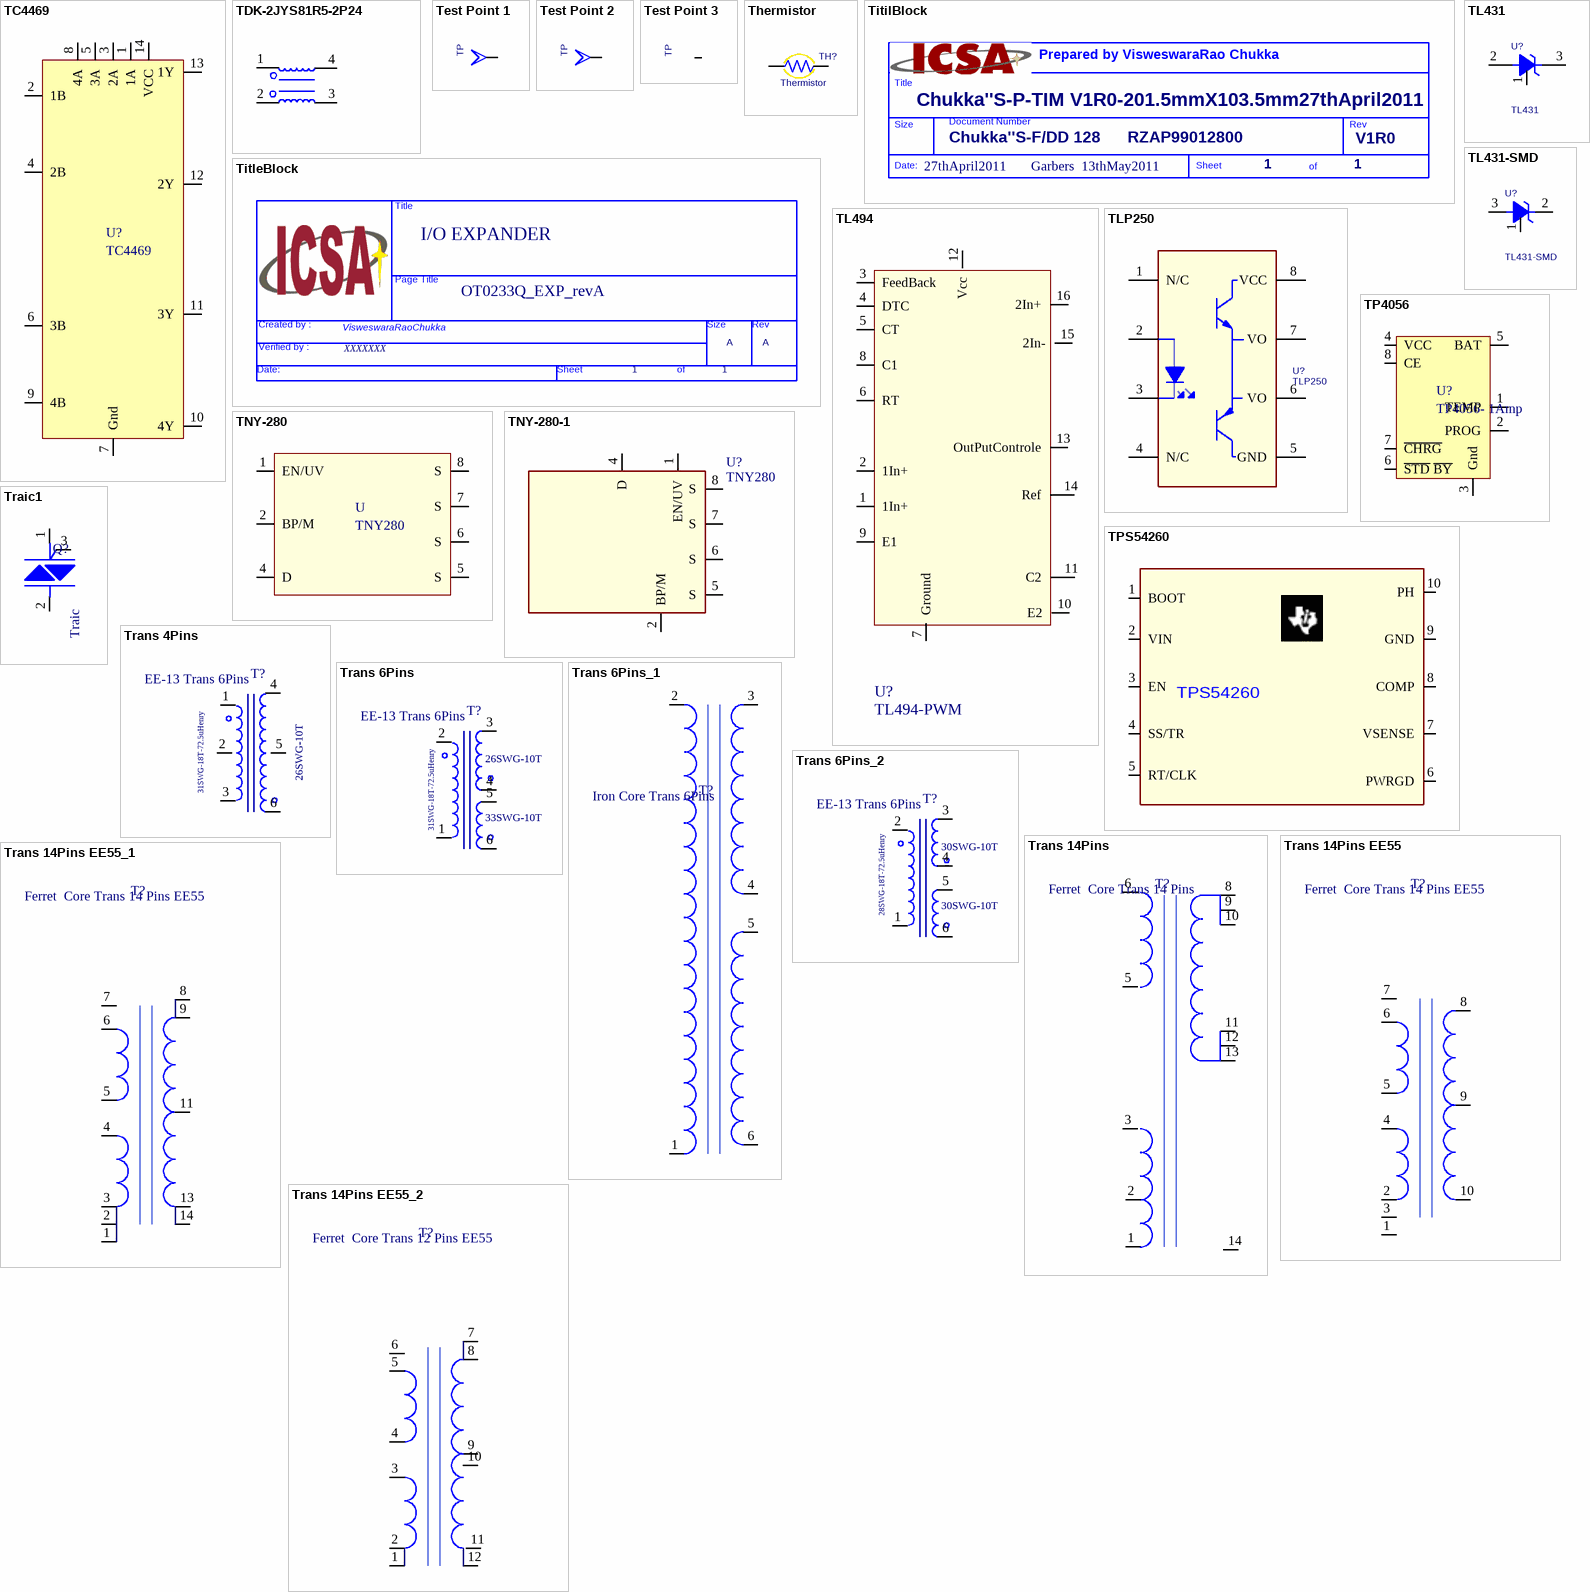
[diagram p39: symbols TC4469 to Trans 14Pins EE55_2]

## TC4469
designator U?
footprint SOP-16 - 300mil (SOP-16=300mil)
pins: 1 1A, 2 1B, 3 2A, 4 2B, 5 3A, 6 3B, 7 Gnd, 8 4A, 9 4B, 10 4Y, 11 3Y, 12 2Y, 13 1Y, 14 VCC

## TDK-2JYS81R5-2P24
designator LF?, comment LineFilter
pins: 1, 2, 3, 4

## Test Point 1
designator TP, comment TP  (value not drawn)
footprint TP (TestPoint)
pins: 1 TP

## Test Point 2
designator TP, comment TP  (value not drawn)
footprint TP+Stich 3X1.8 (TestPoint+ Sticht)
pins: 1 TP

## Test Point 3
designator TP, comment TP  (value not drawn)
footprint TP 1.8X1.8 (TestPoint)
pins: 1 TP

## Thermistor
designator TH?
footprint Thermister15MM
pins: 1, 2

## TitilBlock
designator *??  Page Create Date: 27thApril2011       Garbers  13thMay2011  Page Count: 1  Title: Chukka''S-P-TIM V1R0-201.5mmX103.5mm27thApril2011  RevCode: V1R0  Doc: Chukka''S-F/DD 128      RZAP99012800  (hidden comment: TitilBlock)  (graphical)
prepared by VisweswaraRaoChukka: prepared by; OrgName: ICSA INDIA LTD; Page Number: 1
text: Prepared by VisweswaraRao Chukka; Title; Size; Document Number; Rev; Date:; Sheet; of

## TitleBlock
designator *?  Page Count: 1  Page Size: A  OrgAddr1: OT0233Q_EXP_revA  Title: I/O EXPANDER  Doc: XXXXXXX  (hidden comment: TitleBlock)  (graphical)
Page Create Date: March  8, 1995; Page Number: 1; RevCode: A
text: Title; Page Title; Created by :; Size; Rev; VisweswaraRaoChukka; Verified by :; Date:; Sheet; of

## TL431
designator U?
footprint TL431 (TO92)
pins: 1 REF, 2 A, 3 K

## TL431-SMD
designator U?
footprint SOT23 (SOT23,Transistor,Doide)
pins: 1 REF, 2 A, 3 K

## TL494
designator U?, comment TL494-PWM
footprint DIP-16Pin (Footprint not found)
pins: 1 1In+, 2 1In+, 3 FeedBack, 4 DTC, 5 CT, 6 RT, 7 Ground, 8 C1, 9 E1, 10 E2, 11 C2, 12 Vcc, 13 OutPutControle, 14 Ref, 15 2In-, 16 2In+

## TLP250
designator U?
footprint Dip-8
pins: 1 N/C, 2 C, 3 A, 4 N/C, 5 GND, 6 VO, 7 VO, 8 VCC

## TNY-280
designator U, comment TNY280
pins: 1 EN/UV, 2 BP/M, 4 D, 5 S, 6 S, 7 S, 8 S

## TNY-280-1
designator U?, comment TNY280
footprint Dip-8 - TNY280 7Pin (TNY 280 7Pins)
pins: 1 EN/UV, 2 BP/M, 4 D, 5 S, 6 S, 7 S, 8 S

## TP4056
designator U?, comment TP4056- 1Amp
Lithium Battery Charger TP4056- 1Amp
footprint Dip-8
footprint SOP-8 (SOP-8 ,1232,24C256)
pins: 1 TEMP, 2 PROG, 3 Gnd, 4 VCC, 5 BAT, 6 ~{STD} ~{BY}, 7 ~{CHRG}, 8 CE

## TPS54260
designator U?
pins: 1 BOOT, 2 VIN, 3 EN, 4 SS/TR, 5 RT/CLK, 6 PWRGD, 7 VSENSE, 8 COMP, 9 GND, 10 PH

## Traic1
designator Q?, comment Traic
pins: 1, 2, 3

## Trans 4Pins
designator T?, comment EE-13 Trans 6Pins
pins: 1, 2, 3, 4, 5, 6
text: 26SWG-10T; 31SWG-18T-72.5uHenry

## Trans 6Pins
designator T?, comment EE-13 Trans 6Pins
pins: 1, 2, 3, 4, 5, 6
text: 26SWG-10T; 33SWG-10T; 31SWG-18T-72.5uHenry

## Trans 6Pins_1
designator T?, comment Iron Core Trans 6Pins
pins: 1, 2, 3, 4, 5, 6

## Trans 6Pins_2
designator T?, comment EE-13 Trans 6Pins
pins: 1, 2, 3, 4, 5, 6
text: 30SWG-10T; 28SWG-18T-72.5uHenry

## Trans 14Pins
designator T?, comment Ferret  Core Trans 14 Pins
pins: 1, 2, 3, 5, 6, 8, 9, 10, 11, 12, 13, 14

## Trans 14Pins EE55
designator T?, comment Ferret  Core Trans 14 Pins EE55
pins: 1, 2, 3, 4, 5, 6, 7, 8, 9, 10

## Trans 14Pins EE55_1
designator T?, comment Ferret  Core Trans 14 Pins EE55
footprint EE 55 X 55 X 20MM-14Pins-Vartical (FerretCore EE 55 X 55 X 20MM-14Pins-Vartical)
pins: 1, 2, 3, 4, 5, 6, 7, 8, 9, 11, 13, 14

## Trans 14Pins EE55_2
designator T?, comment Ferret  Core Trans 12 Pins EE55
footprint EE 55 X 55 X 20MM-12Pins-1 (FerretCore EE 55 X 55 X 21MM-12Pins)
pins: 1, 2, 3, 4, 5, 6, 7, 8, 9, 10, 11, 12

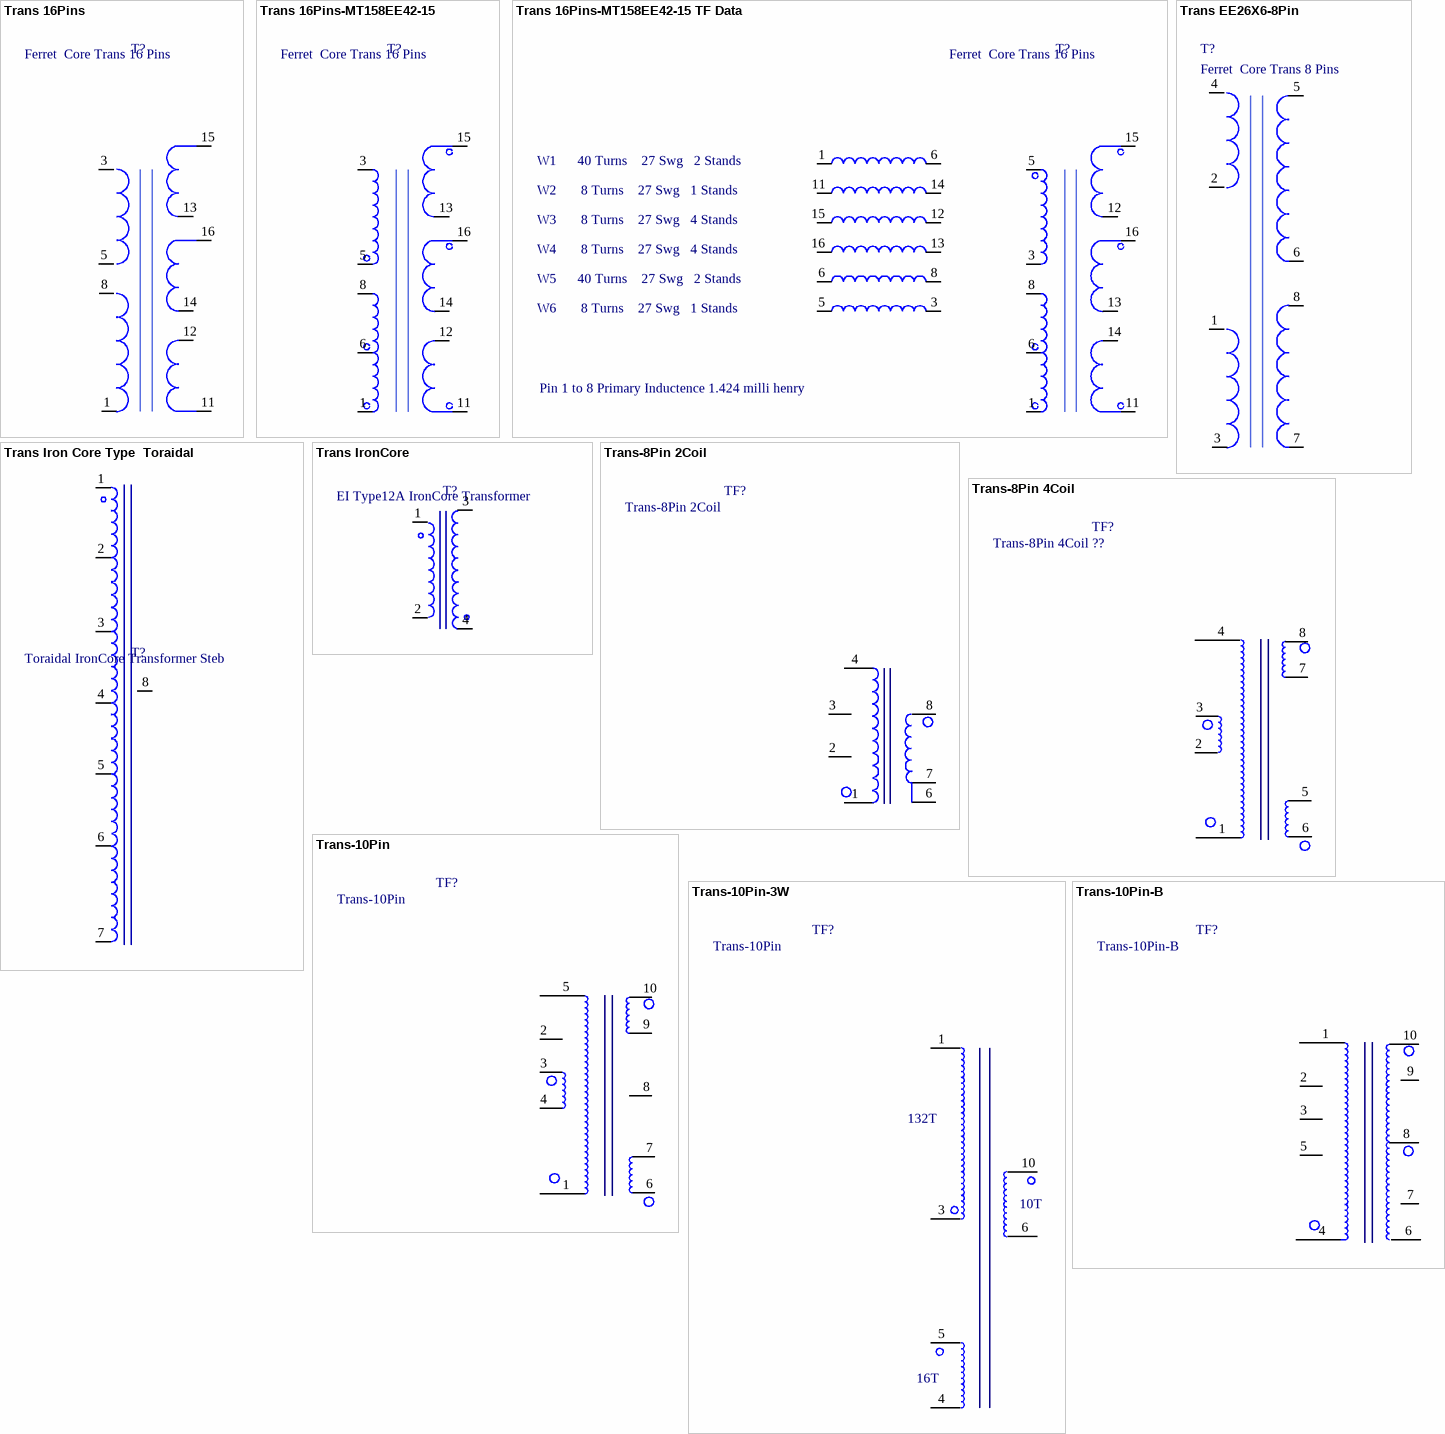
[diagram p40: symbols Trans 16Pins to Trans-10Pin-B]

## Trans 16Pins
designator T?, comment Ferret  Core Trans 16 Pins
footprint EE-42-15-16Pins (EE-42-15-16Pins SMPS Ferret Core)
pins: 1, 3, 5, 8, 11, 12, 13, 14, 15, 16

## Trans 16Pins-MT158EE42-15
designator T?, comment Ferret  Core Trans 16 Pins
footprint EE-42-15-16Pins (EE-42-15-16Pins SMPS Ferret Core)
pins: 1, 3, 5, 6, 8, 11, 12, 13, 14, 15, 16

## Trans 16Pins-MT158EE42-15 TF Data
designator T?, comment Ferret  Core Trans 16 Pins
footprint EE-42-15-16Pins (EE-42-15-16Pins SMPS Ferret Core)
pins: 1, 1, 3, 3, 5, 5, 6, 6, 6, 8, 8, 11, 11, 12, 12, 13, 13, 14, 14, 15, 15, 16, 16
text: W1      40 Turns    27 Swg   2 Stands; W2       8 Turns    27 Swg   1 Stands; W3       8 Turns    27 Swg   4 Stands; W4       8 Turns    27 Swg   4 Stands; W5      40 Turns    27 Swg   2 Stands; W6       8 Turns    27 Swg   1 Stands; Pin 1 to 8 Primary Inductence 1.424 milli henry

## Trans EE26X6-8Pin
designator T?, comment Ferret  Core Trans 8 Pins
ETD 35
pins: 1, 2, 3, 4, 5, 6, 7, 8

## Trans Iron Core Type  Toraidal
designator T?, comment Toraidal IronCore Transformer Steb
EI Type16  IronCore Transformer
pins: 1, 2, 3, 4, 5, 6, 7, 8

## Trans IronCore
designator T?, comment EI Type12A IronCore Transformer
footprint 12A-15MM (Footprint not found)
pins: 1, 2, 3, 4

## Trans-8Pin 2Coil
designator TF?
pins: 1, 2, 3, 4, 6, 7, 8

## Trans-8Pin 4Coil
designator TF?, comment Trans-8Pin 4Coil ??
pins: 1, 2, 3, 4, 5, 6, 7, 8

## Trans-10Pin
designator TF?
pins: 1, 2, 3, 4, 5, 6, 7, 8, 9, 10

## Trans-10Pin-3W
designator TF?, comment Trans-10Pin
pins: 1, 3, 4, 5, 6, 10
text: 132T; 10T; 16T

## Trans-10Pin-B
designator TF?
pins: 1, 2, 3, 4, 5, 6, 7, 8, 9, 10

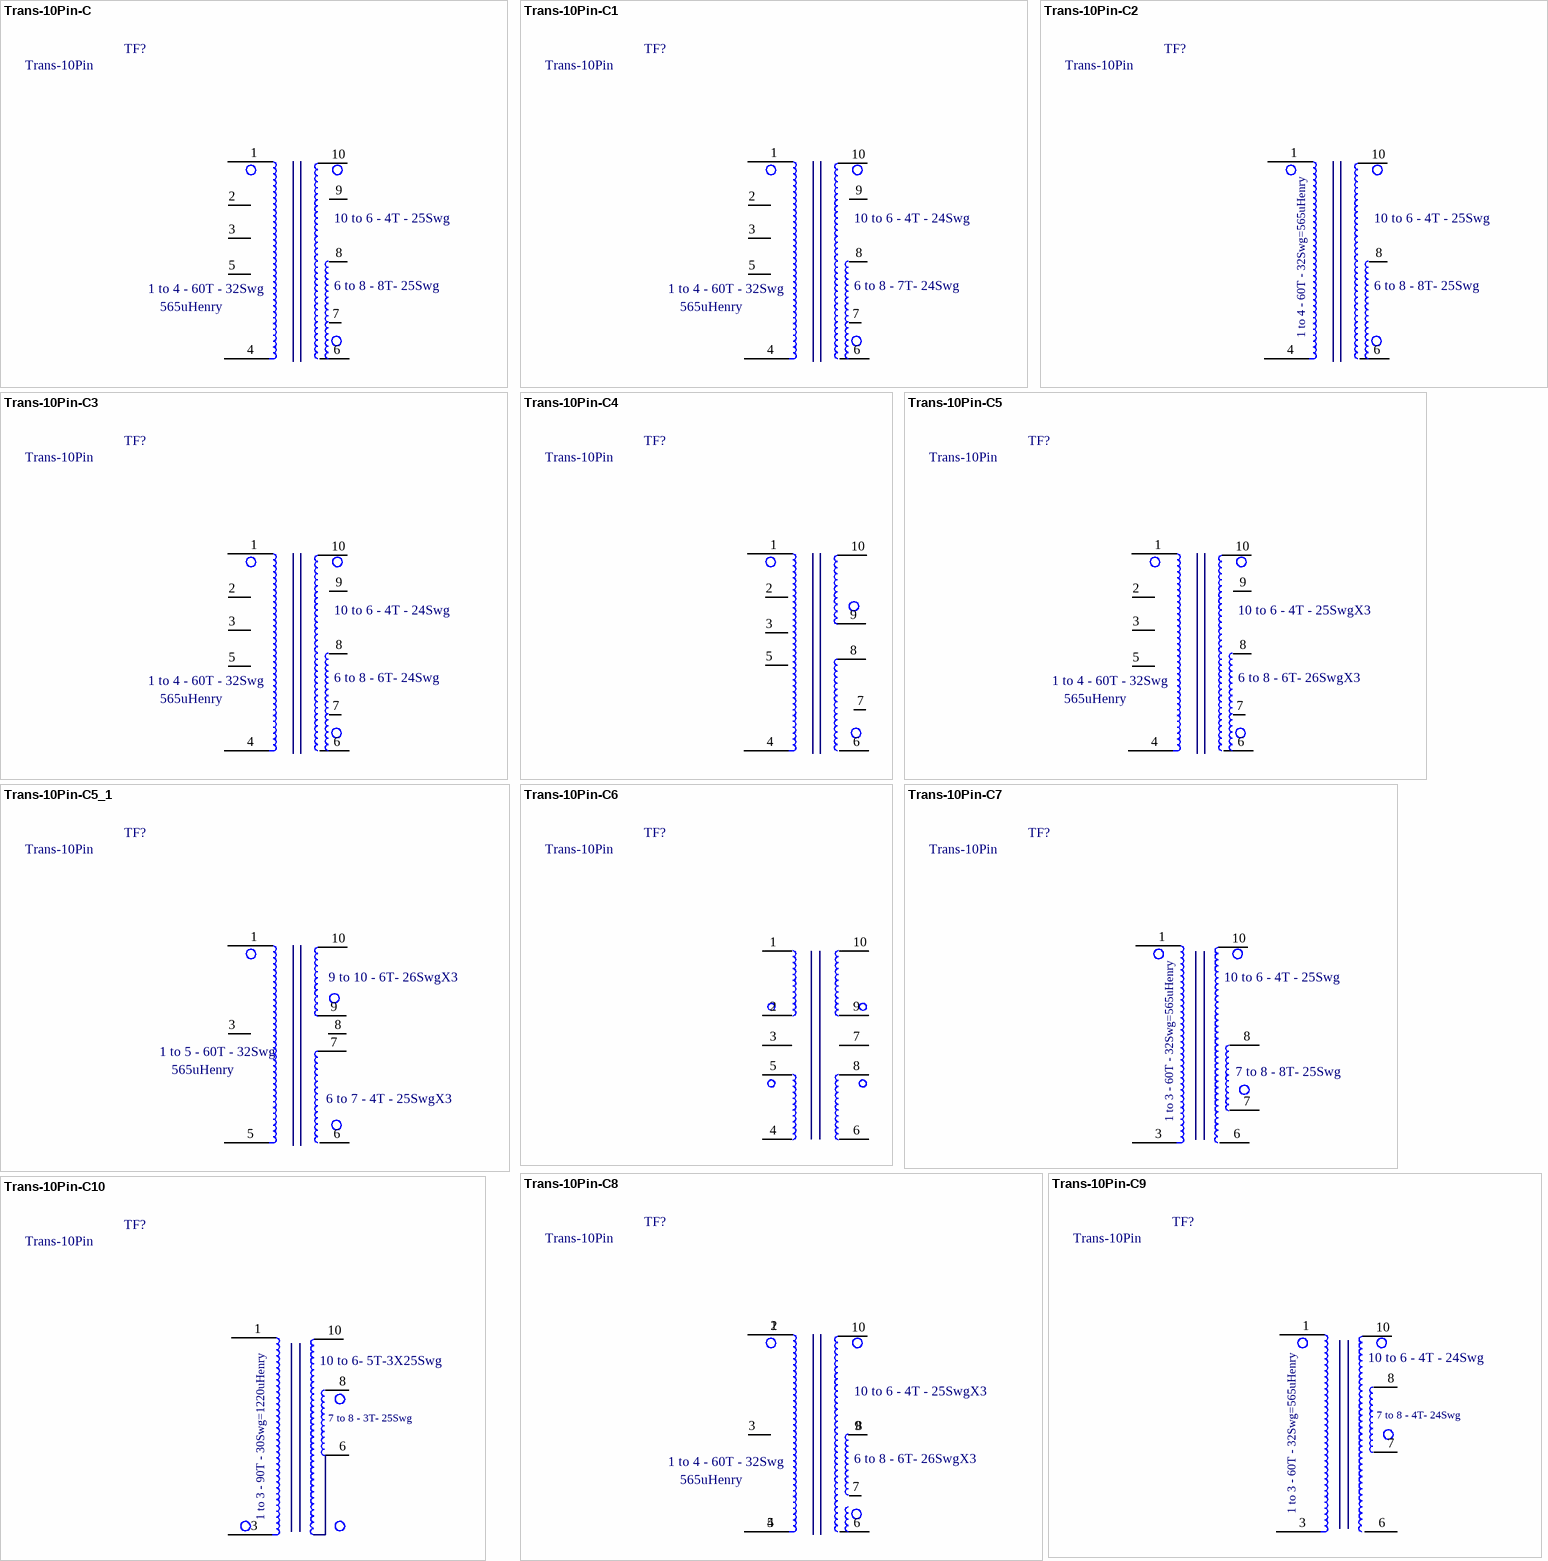
[diagram p41: symbols Trans-10Pin-C to Trans-10Pin-C10]

## Trans-10Pin-C
designator TF?, comment Trans-10Pin
footprint EE20 VERTICAL 5+5PINS
pins: 1, 2, 3, 4, 5, 6, 7, 8, 9, 10
text: 10 to 6 - 4T - 25Swg; 6 to 8 - 8T- 25Swg; 1 to 4 - 60T - 32Swg; 565uHenry

## Trans-10Pin-C1
designator TF?, comment Trans-10Pin
footprint EE20 VERTICAL 5+5PINS
pins: 1, 2, 3, 4, 5, 6, 7, 8, 9, 10
text: 10 to 6 - 4T - 24Swg; 6 to 8 - 7T- 24Swg; 1 to 4 - 60T - 32Swg; 565uHenry

## Trans-10Pin-C2
designator TF?, comment Trans-10Pin
footprint EE20 VERTICAL 5+5PINS
pins: 1, 4, 6, 8, 10
text: 10 to 6 - 4T - 25Swg; 6 to 8 - 8T- 25Swg; 1 to 4 - 60T - 32Swg=565uHenry

## Trans-10Pin-C3
designator TF?, comment Trans-10Pin
footprint EE20 VERTICAL 5+5PINS
pins: 1, 2, 3, 4, 5, 6, 7, 8, 9, 10
text: 10 to 6 - 4T - 24Swg; 6 to 8 - 6T- 24Swg; 1 to 4 - 60T - 32Swg; 565uHenry

## Trans-10Pin-C4
designator TF?, comment Trans-10Pin
footprint EE20 VERTICAL 5+5PINS
pins: 1, 2, 3, 4, 5, 6, 7, 8, 9, 10

## Trans-10Pin-C5
designator TF?, comment Trans-10Pin
footprint EE20 VERTICAL 5+5PINS
pins: 1, 2, 3, 4, 5, 6, 7, 8, 9, 10
text: 10 to 6 - 4T - 25SwgX3; 6 to 8 - 6T- 26SwgX3; 1 to 4 - 60T - 32Swg; 565uHenry

## Trans-10Pin-C5_1
designator TF?, comment Trans-10Pin
footprint EE20 VERTICAL 5+5PINS
pins: 1, 2, 3, 4, 5, 6, 7, 8, 9, 10
text: 9 to 10 - 6T- 26SwgX3; 1 to 5 - 60T - 32Swg; 565uHenry; 6 to 7 - 4T - 25SwgX3

## Trans-10Pin-C6
designator TF?, comment Trans-10Pin
footprint EE20 VERTICAL 5+5PINS
pins: 1, 2, 3, 4, 5, 6, 7, 8, 9, 10

## Trans-10Pin-C7
designator TF?, comment Trans-10Pin
footprint EE20 VERTICAL 5+5PINS
pins: 1, 3, 6, 7, 8, 10
text: 10 to 6 - 4T - 25Swg; 7 to 8 - 8T- 25Swg; 1 to 3 - 60T - 32Swg=565uHenry

## Trans-10Pin-C8
designator TF?, comment Trans-10Pin
footprint EE20 VERTICAL 5+5PINS
pins: 1, 2, 3, 4, 5, 6, 7, 8, 9, 10
text: 10 to 6 - 4T - 25SwgX3; 6 to 8 - 6T- 26SwgX3; 1 to 4 - 60T - 32Swg; 565uHenry

## Trans-10Pin-C9
designator TF?, comment Trans-10Pin
EE20-10Pin-MT313
footprint EE20 VERTICAL 5+5PINS
pins: 1, 3, 6, 7, 8, 10
text: 10 to 6 - 4T - 24Swg; 7 to 8 - 4T- 24Swg; 1 to 3 - 60T - 32Swg=565uHenry

## Trans-10Pin-C10
designator TF?, comment Trans-10Pin
EE20-10Pin-MT302B
footprint EE20 VERTICAL 5+5PINS
pins: 1, 3, 6, 8, 10
text: 10 to 6- 5T-3X25Swg; 7 to 8 - 3T- 25Swg; 1 to 3 - 90T - 30Swg=1220uHenry

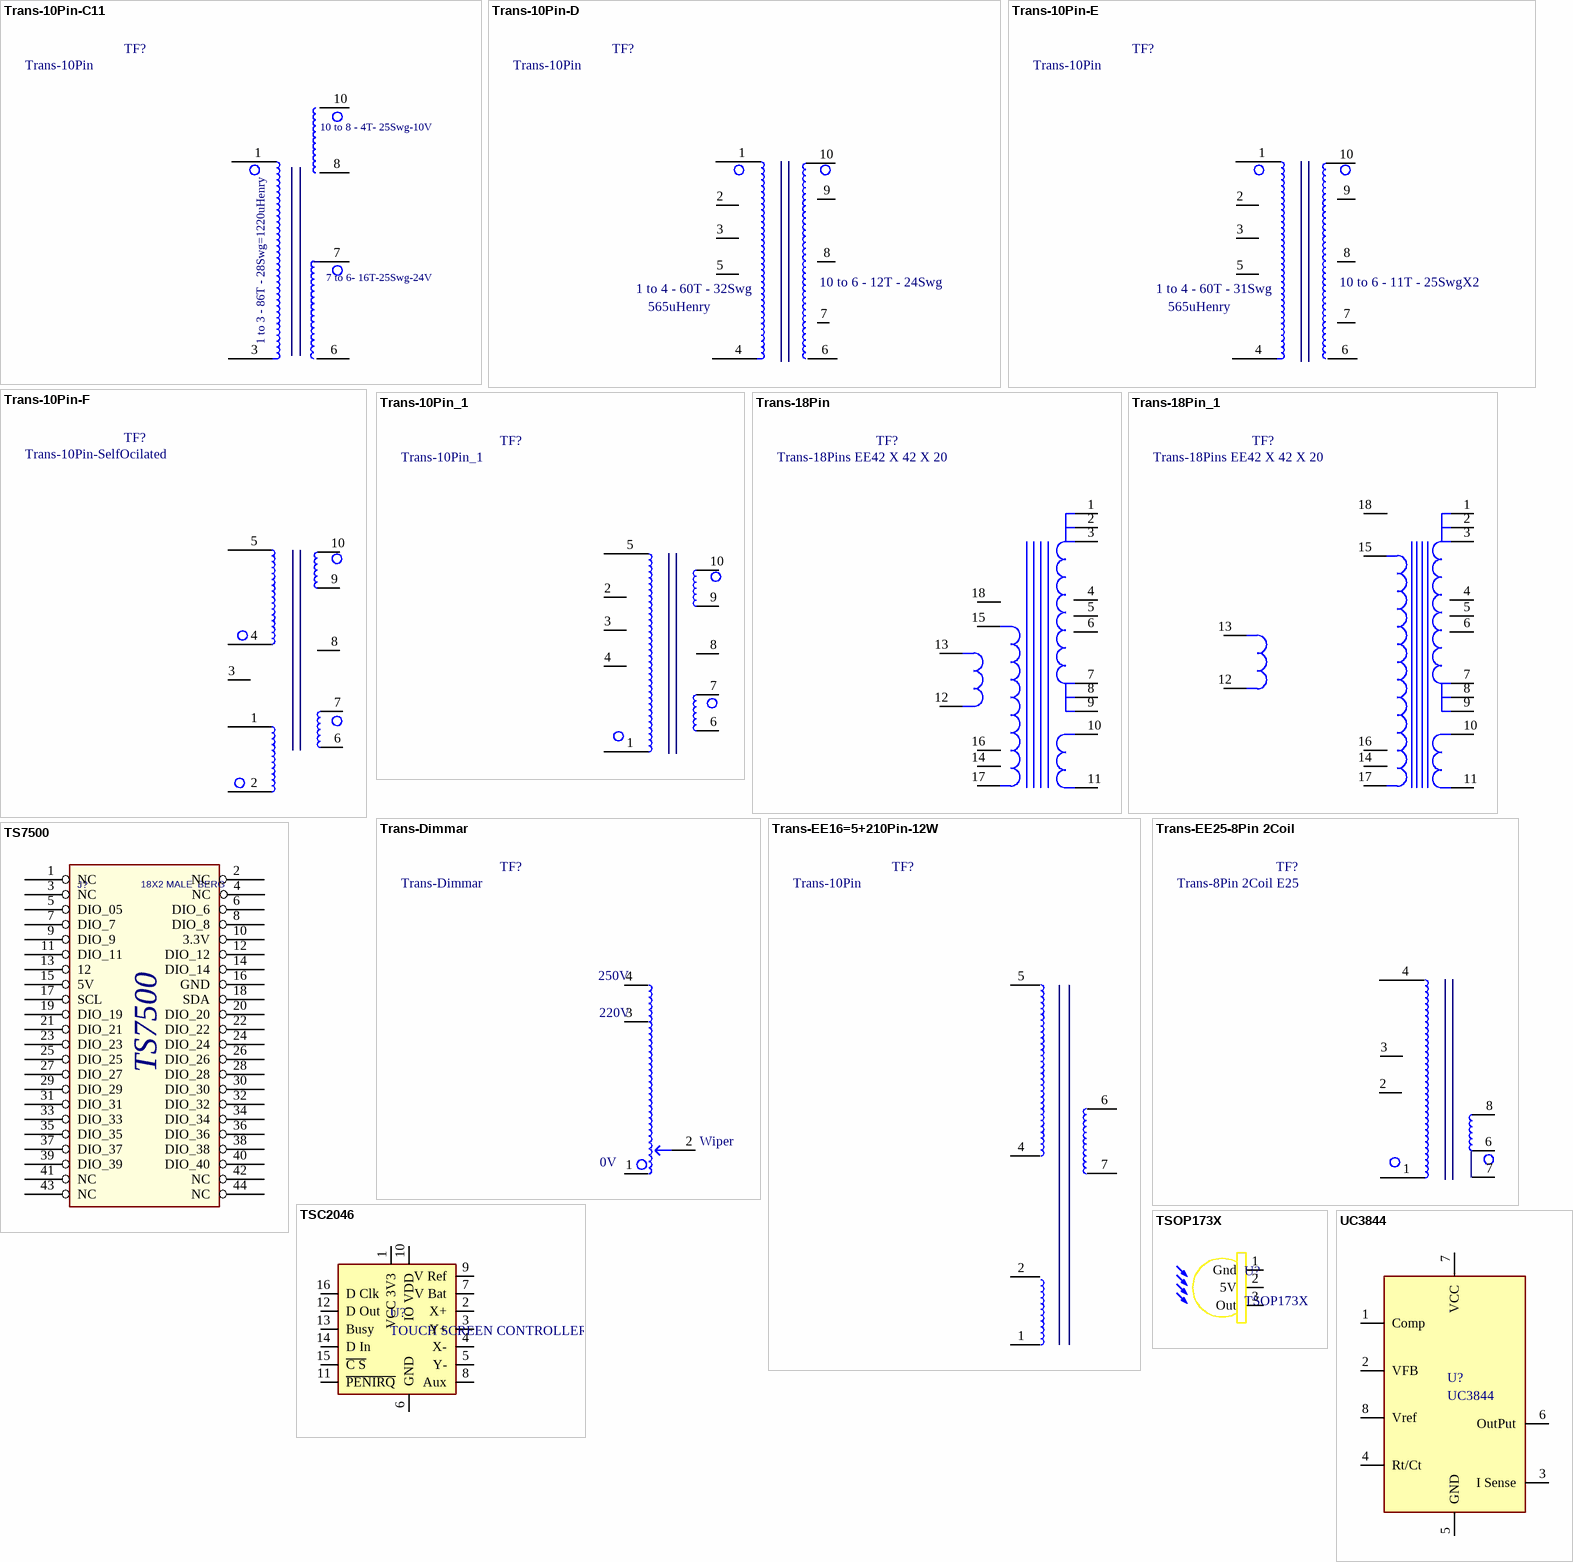
[diagram p42: symbols Trans-10Pin-C11 to UC3844]

## Trans-10Pin-C11
designator TF?, comment Trans-10Pin
EE20-10Pin-MT302B
footprint EE20 VERTICAL 5+5PINS
pins: 1, 3, 6, 7, 8, 10
text: 10 to 8 - 4T- 25Swg-10V; 7 to 6- 16T-25Swg-24V; 1 to 3 - 86T - 28Swg=1220uHenry

## Trans-10Pin-D
designator TF?, comment Trans-10Pin
footprint EE20 VERTICAL 5+5PINS
pins: 1, 2, 3, 4, 5, 6, 7, 8, 9, 10
text: 10 to 6 - 12T - 24Swg; 1 to 4 - 60T - 32Swg; 565uHenry

## Trans-10Pin-E
designator TF?, comment Trans-10Pin
Ragava Heat Controle
footprint EE20 VERTICAL 5+5PINS
pins: 1, 2, 3, 4, 5, 6, 7, 8, 9, 10
text: 10 to 6 - 11T - 25SwgX2; 1 to 4 - 60T - 31Swg; 565uHenry

## Trans-10Pin-F
designator TF?, comment Trans-10Pin-SelfOcilated
pins: 1, 2, 3, 4, 5, 6, 7, 8, 9, 10

## Trans-10Pin_1
designator TF?
pins: 1, 2, 3, 4, 5, 6, 7, 8, 9, 10

## Trans-18Pin
designator TF?, comment Trans-18Pins EE42 X 42 X 20
pins: 1, 2, 3, 4, 5, 6, 7, 8, 9, 10, 11, 12, 13, 14, 15, 16, 17, 18

## Trans-18Pin_1
designator TF?, comment Trans-18Pins EE42 X 42 X 20
pins: 1, 2, 3, 4, 5, 6, 7, 8, 9, 10, 11, 12, 13, 14, 15, 16, 17, 18

## Trans-Dimmar
designator TF?
pins: 1, 2, 3, 4
text: 250V; 220V; Wiper; 0V

## Trans-EE16=5+210Pin-12W
designator TF?, comment Trans-10Pin
footprint EE16 5+2Pins (EE16 Transformer 5+2Pins)
pins: 1, 2, 4, 5, 6, 7

## Trans-EE25-8Pin 2Coil
designator TF?, comment Trans-8Pin 2Coil E25
pins: 1, 2, 3, 4, 6, 7, 8

## TS7500
designator J?, comment 18X2 MALE  BERG
footprint TS7500-Board
pins: 1 NC, 2 NC, 3 NC, 4 NC, 5 DIO_05, 6 DIO_6, 7 DIO_7, 8 DIO_8, 9 DIO_9, 10 3.3V, 11 DIO_11, 12 DIO_12, 13 12, 14 DIO_14, 15 5V, 16 GND, 17 SCL, 18 SDA, 19 DIO_19, 20 DIO_20, 21 DIO_21, 22 DIO_22, 23 DIO_23, 24 DIO_24, 25 DIO_25, 26 DIO_26, 27 DIO_27, 28 DIO_28, 29 DIO_29, 30 DIO_30, 31 DIO_31, 32 DIO_32, 33 DIO_33, 34 DIO_34, 35 DIO_35, 36 DIO_36, 37 DIO_37, 38 DIO_38, 39 DIO_39, 40 DIO_40, 41 NC, 42 NC, 43 NC, 44 NC

## TSC2046
designator U?, comment TOUCH SCREEN CONTROLLER
TOUCH SCREEN CONTROLLER (TFT)
footprint TSSOP-16 (Footprint not found)
pins: 1 VCC 3V3, 2 X+, 3 Y+, 4 X-, 5 Y-, 6 GND, 7 V Bat, 8 Aux, 9 V Ref, 10 IO VDD, 11 ~{PENIRQ}, 12 D Out, 13 Busy, 14 D In, 15 ~{C S}, 16 D Clk

## TSOP173X
designator U?
footprint TSOP173X (Footprint not found)
pins: 1 Gnd, 2 5V, 3 Out

## UC3844
designator U?
pins: 1 Comp, 2 VFB, 3 I Sense, 4 Rt/Ct, 5 GND, 6 OutPut, 7 VCC, 8 Vref

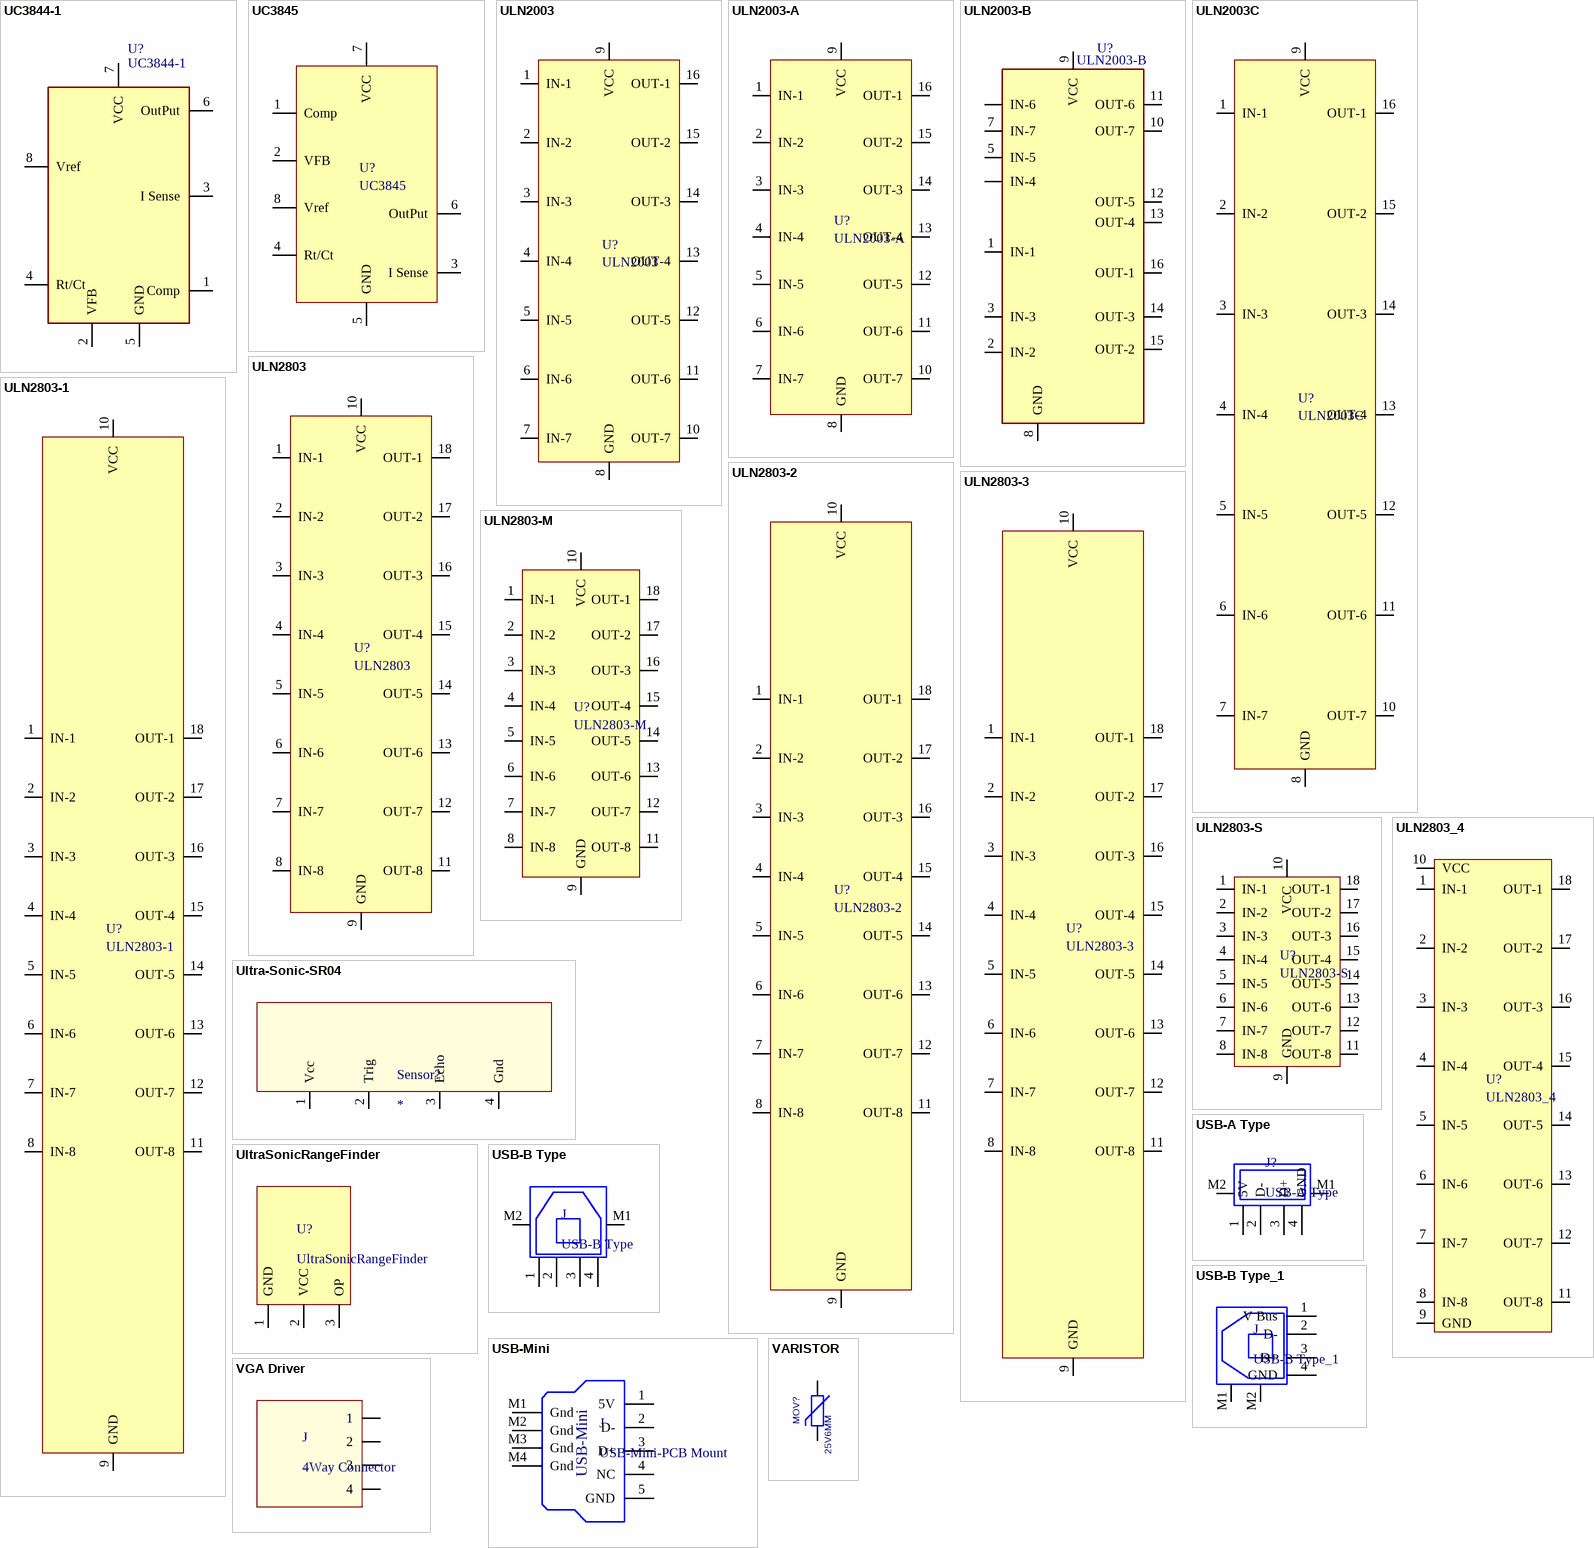
[diagram p43: symbols UC3844-1 to VGA Driver]

## UC3844-1
designator U?
footprint Dip-8
pins: 1 Comp, 2 VFB, 3 I Sense, 4 Rt/Ct, 5 GND, 6 OutPut, 7 VCC, 8 Vref

## UC3845
designator U?
pins: 1 Comp, 2 VFB, 3 I Sense, 4 Rt/Ct, 5 GND, 6 OutPut, 7 VCC, 8 Vref

## ULN2003
designator U?
footprint Dip-16
pins: 1 IN-1, 2 IN-2, 3 IN-3, 4 IN-4, 5 IN-5, 6 IN-6, 7 IN-7, 8 GND, 9 VCC, 10 OUT-7, 11 OUT-6, 12 OUT-5, 13 OUT-4, 14 OUT-3, 15 OUT-2, 16 OUT-1

## ULN2003-A
designator U?
footprint Dip-16
pins: 1 IN-1, 2 IN-2, 3 IN-3, 4 IN-4, 5 IN-5, 6 IN-6, 7 IN-7, 8 GND, 9 VCC, 10 OUT-7, 11 OUT-6, 12 OUT-5, 13 OUT-4, 14 OUT-3, 15 OUT-2, 16 OUT-1

## ULN2003-B
designator U?
footprint Dip-16
pins: 1 IN-1, 2 IN-2, 3 IN-3, 4 IN-4, 5 IN-5, 6 IN-6, 7 IN-7, 8 GND, 9 VCC, 10 OUT-7, 11 OUT-6, 12 OUT-5, 13 OUT-4, 14 OUT-3, 15 OUT-2, 16 OUT-1

## ULN2003C
designator U?
footprint Dip-16
pins: 1 IN-1, 2 IN-2, 3 IN-3, 4 IN-4, 5 IN-5, 6 IN-6, 7 IN-7, 8 GND, 9 VCC, 10 OUT-7, 11 OUT-6, 12 OUT-5, 13 OUT-4, 14 OUT-3, 15 OUT-2, 16 OUT-1

## ULN2803
designator U?
footprint Dip-18
pins: 1 IN-1, 2 IN-2, 3 IN-3, 4 IN-4, 5 IN-5, 6 IN-6, 7 IN-7, 8 IN-8, 9 GND, 10 VCC, 11 OUT-8, 12 OUT-7, 13 OUT-6, 14 OUT-5, 15 OUT-4, 16 OUT-3, 17 OUT-2, 18 OUT-1

## ULN2803-1
designator U?
footprint Dip-18
pins: 1 IN-1, 2 IN-2, 3 IN-3, 4 IN-4, 5 IN-5, 6 IN-6, 7 IN-7, 8 IN-8, 9 GND, 10 VCC, 11 OUT-8, 12 OUT-7, 13 OUT-6, 14 OUT-5, 15 OUT-4, 16 OUT-3, 17 OUT-2, 18 OUT-1

## ULN2803-2
designator U?
footprint Dip-18
pins: 1 IN-1, 2 IN-2, 3 IN-3, 4 IN-4, 5 IN-5, 6 IN-6, 7 IN-7, 8 IN-8, 9 GND, 10 VCC, 11 OUT-8, 12 OUT-7, 13 OUT-6, 14 OUT-5, 15 OUT-4, 16 OUT-3, 17 OUT-2, 18 OUT-1

## ULN2803-3
designator U?
footprint Dip-18
pins: 1 IN-1, 2 IN-2, 3 IN-3, 4 IN-4, 5 IN-5, 6 IN-6, 7 IN-7, 8 IN-8, 9 GND, 10 VCC, 11 OUT-8, 12 OUT-7, 13 OUT-6, 14 OUT-5, 15 OUT-4, 16 OUT-3, 17 OUT-2, 18 OUT-1

## ULN2803-M
designator U?
footprint Dip-18
pins: 1 IN-1, 2 IN-2, 3 IN-3, 4 IN-4, 5 IN-5, 6 IN-6, 7 IN-7, 8 IN-8, 9 GND, 10 VCC, 11 OUT-8, 12 OUT-7, 13 OUT-6, 14 OUT-5, 15 OUT-4, 16 OUT-3, 17 OUT-2, 18 OUT-1

## ULN2803-S
designator U?
footprint Dip-18
pins: 1 IN-1, 2 IN-2, 3 IN-3, 4 IN-4, 5 IN-5, 6 IN-6, 7 IN-7, 8 IN-8, 9 GND, 10 VCC, 11 OUT-8, 12 OUT-7, 13 OUT-6, 14 OUT-5, 15 OUT-4, 16 OUT-3, 17 OUT-2, 18 OUT-1

## ULN2803_4
designator U?
footprint Dip-18
pins: 1 IN-1, 2 IN-2, 3 IN-3, 4 IN-4, 5 IN-5, 6 IN-6, 7 IN-7, 8 IN-8, 9 GND, 10 VCC, 11 OUT-8, 12 OUT-7, 13 OUT-6, 14 OUT-5, 15 OUT-4, 16 OUT-3, 17 OUT-2, 18 OUT-1

## Ultra-Sonic-SR04
designator Sensor?
pins: 1 Vcc, 2 Trig, 3 Echo, 4 Gnd

## UltraSonicRangeFinder
designator U?
pins: 1 GND, 2 VCC, 3 OP

## USB-A Type
designator J?
footprint USB-AType-Female-PCB (USB-AType-Female-PCB Mount)
pins: 1 5V, 2 D-, 3 D+, 4 GND, M1, M2

## USB-B Type
designator J
footprint USB-B-TYPE-RA (USB-A-TYPE-RA)
pins: 1, 2, 3, 4, M1, M2

## USB-B Type_1
designator J
footprint USB-B-TYPE-RA (USB-A-TYPE-RA)
pins: 1 V Bus, 2 D-, 3 D+, 4 GND, M1, M2

## USB-Mini
designator J, comment USB-Mini-PCB Mount
footprint USB-Mini-B Type
pins: 1 5V, 2 D-, 3 D+, 4 NC, 5 GND, M1 Gnd, M2 Gnd, M3 Gnd, M4 Gnd

## VARISTOR
designator MOV?, comment 25V6MM
footprint MOV6mm
pins: 1, 2

## VGA Driver
designator J, comment 4Way Connector
pins: 1, 2, 3, 4

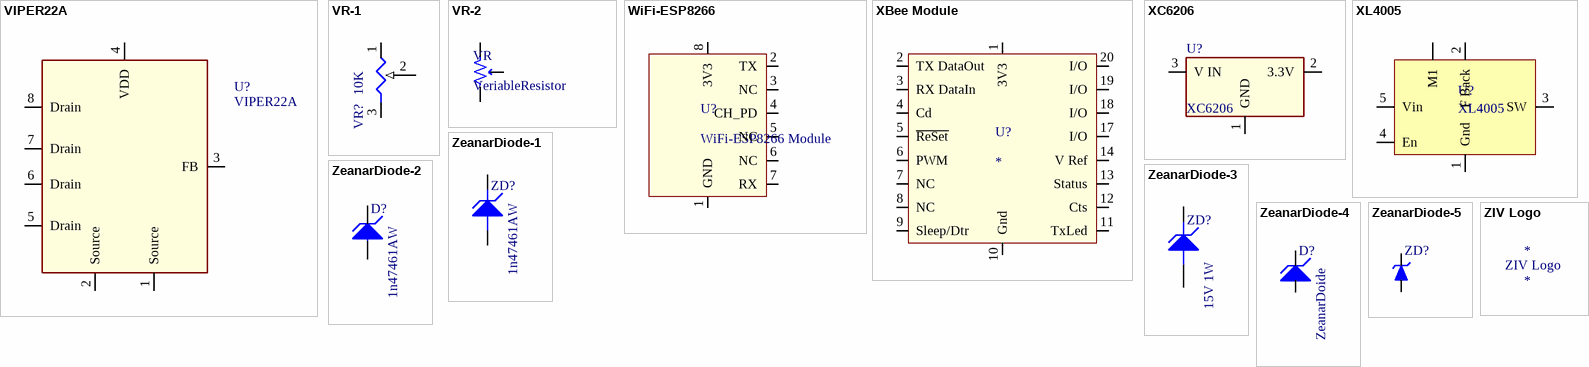
[diagram p44: symbols VIPER22A to ZIV Logo]

## VIPER22A
designator U?
pins: 1 Source, 2 Source, 3 FB, 4 VDD, 5 Drain, 6 Drain, 7 Drain, 8 Drain

## VR-1
designator VR?, comment 10K
footprint VR3296 (Footprint not found)
pins: 1, 2 (in), 3

## VR-2
designator VR, comment VeriableResistor
pins: 1, 2, 3

## WiFi-ESP8266
designator U?, comment WiFi-ESP8266 Module
pins: 1 GND, 2 TX, 3 NC, 4 CH_PD, 5 NC, 6 NC, 7 RX, 8 3V3

## XBee Module
designator U?
pins: 1 3V3, 2 TX DataOut, 3 RX DataIn, 4 Cd, 5 ~{ReSet}, 6 PWM, 7 NC, 8 NC, 9 Sleep/Dtr, 10 Gnd, 11 TxLed, 12 Cts, 13 Status, 14 V Ref, 17 I/O, 18 I/O, 19 I/O, 20 I/O

## XC6206
designator U?
footprint SOT23-XC6206
pins: 1 GND, 2 3.3V, 3 V IN

## XL4005
designator U?
pins: 1 Gnd, 2 F Back, 3 SW, 4 En, 5 Vin, M1

## ZeanarDiode-1
designator ZD?, comment 1n47461AW
footprint ZeanarDoide10MM
pins: 1 A, 2 C

## ZeanarDiode-2
designator D?, comment 1n47461AW
footprint ZeanarDoide10MM
pins: 1 A, 2 K

## ZeanarDiode-3
designator ZD?, comment 15V 1W
footprint ZeanarDoide10MM
pins: 1 A, 2 C

## ZeanarDiode-4
designator D?, comment ZeanarDoide
footprint ZeanarDoide10MM
pins: 1 A, 2 K

## ZeanarDiode-5
designator ZD?, comment ZeanarDoide  (value not drawn)
footprint ZeanarDoide10MM
pins: 1 A, 2 K

## ZIV Logo
designator *
footprint ZIV Grid Automation (ZIV Logo)